# Altium schematic symbol library 野火_EBF6ULL B1 Pro 底板_原理图封装_AD格式.SCHLIB: 140 symbols (part 1 of 2)
Pins are listed as number, name and electrical type; pins without a type are passive.

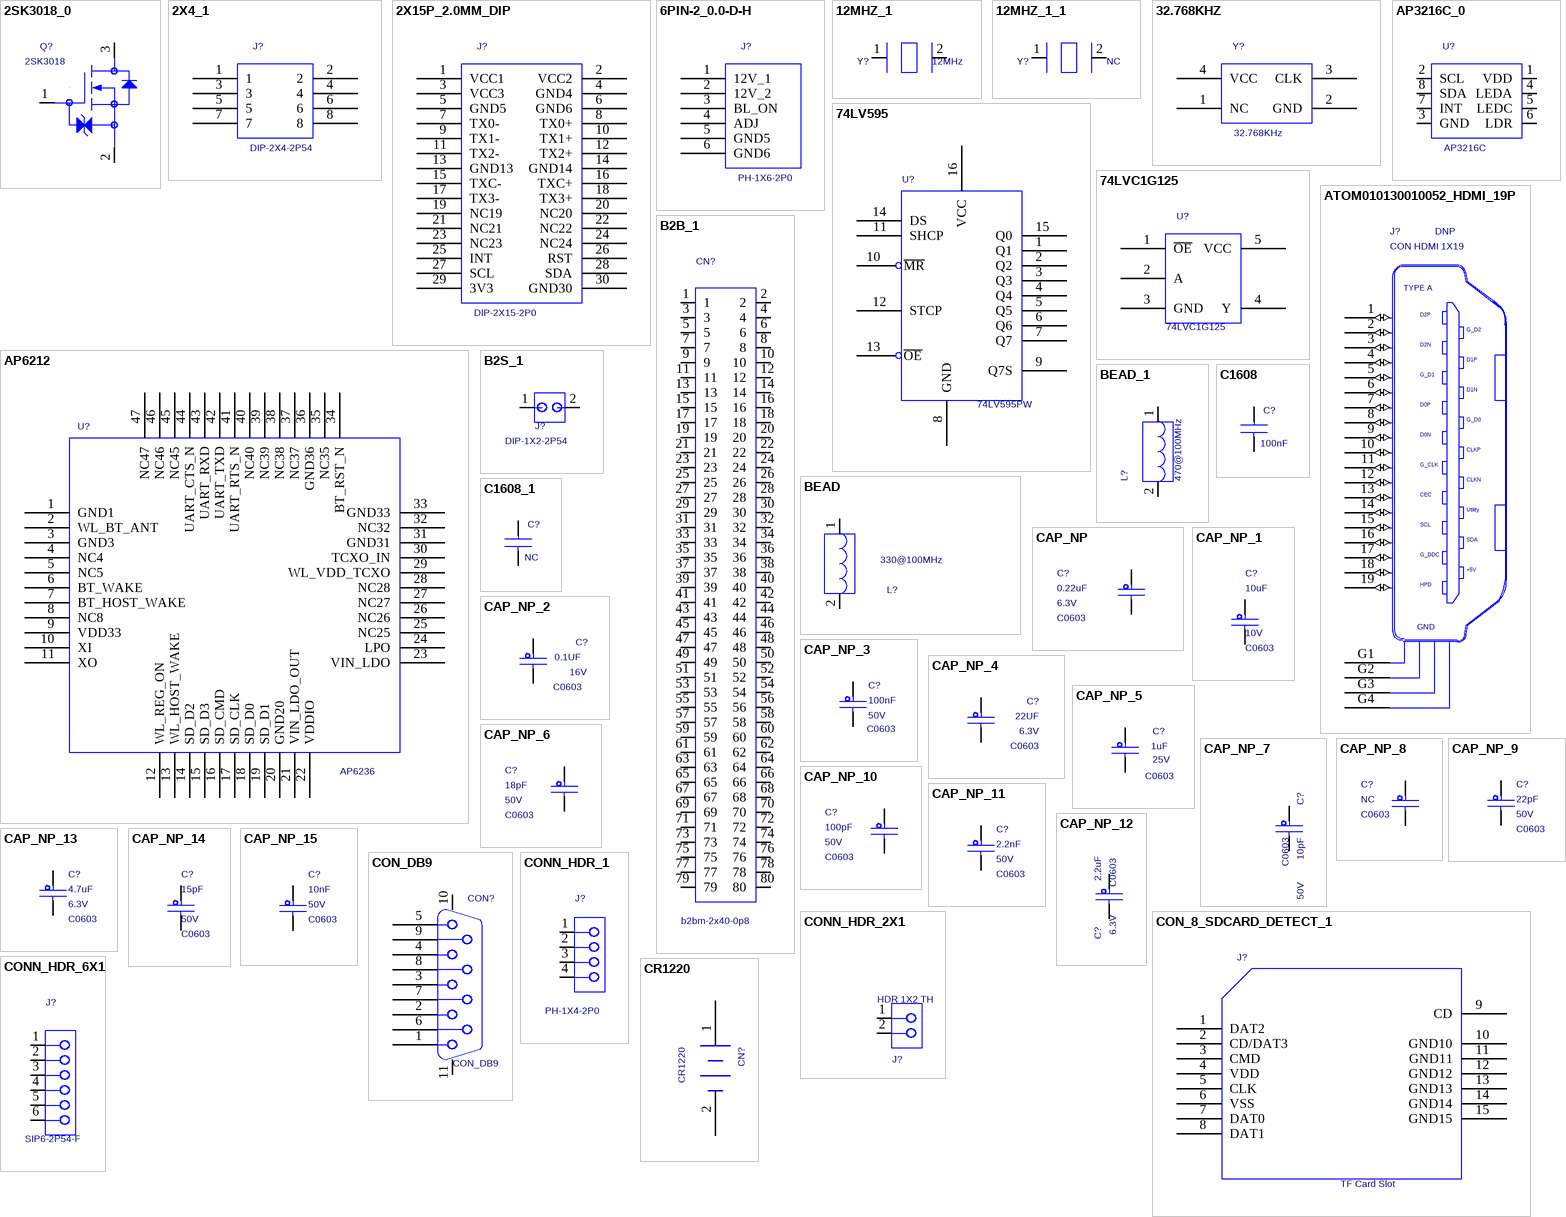
[diagram p0: symbols 2SK3018_0 to CR1220]

## 2SK3018_0
designator Q?  value 2SK3018  (hidden comment: 2SK3018_0)
TRANS MOSFET N-CH 30V .1A SOT-323; PCB DECAL: SOT23; AGILE_PN: 480-75317; MFG_NAME01: ROHM; MFG_PN01: 2SK3018T106; CAD_APPROVED: Yes; Source_Path: H:\NXP_RT1050\SCH\CORE_SCH\IMXRT1052_180113.DSN; CLASS: IC; ROHS: Yes; HEIGHT: 0.9MM
footprint SOT23
pins: 1 GATE, 2 SOURCE, 3 DRAIN

## 2X4_1
designator J?  value DIP-2X4-2P54  (hidden comment: 2X4_1)
Source_Path: D:\NXP_RT1050\RT1050_MB_PRO\SCH\IMXRT1052_MB_PRO_0321.DSN; PCB DECAL: DIP-2X4-2P54
footprint DIP-2X4-2P54
pins: 1, 2, 3, 4, 5, 6, 7, 8

## 2X15P_2.0MM_DIP
designator J?  value DIP-2X15-2P0  (hidden comment: 2X15P_2.0MM_DIP)
Source_Path: H:\NXP_RT1050\SCH\SCHLIB\YHSCHLIB.OLB; PCB DECAL: DIP-2X15-2P0
footprint DIP-2X15-2P0
pins: 1 VCC1, 2 VCC2, 3 VCC3, 4 GND4, 5 GND5, 6 GND6, 7 TX0-, 8 TX0+, 9 TX1-, 10 TX1+, 11 TX2-, 12 TX2+, 13 GND13, 14 GND14, 15 TXC-, 16 TXC+, 17 TX3-, 18 TX3+, 19 NC19, 20 NC20, 21 NC21, 22 NC22, 23 NC23, 24 NC24, 25 INT, 26 RST, 27 SCL, 28 SDA, 29 3V3, 30 GND30

## 6PIN-2_0.0-D-H
designator J?  value PH-1X6-2P0  (hidden comment: 6PIN-2_0.0-D-H)
Source_Path: H:\NXP_RT1050\SCH\IMXRT1052_MB.DSN; PCB DECAL: PH-1X6-2P0
footprint PH-1X6-2P0
pins: 1 12V_1, 2 12V_2, 3 BL_ON, 4 ADJ, 5 GND5, 6 GND6

## 12MHZ_1
designator Y?  value 12MHz  (hidden comment: 12MHZ_1)
PCB DECAL: XTAL_SMD; Source_Path: H:\NXP_RT1050\SCH\IMXRT1052_MB.DSN
footprint XTAL_SMD
pins: 1, 2

## 12MHZ_1_1
designator Y?, comment value NC  (hidden comment: 12MHZ_1)
PCB DECAL: XTAL-DIP; Source_Path: H:\NXP_RT1050\SCH\IMXRT1052_MB.DSN
footprint XTAL-DIP
pins: 1, 2

## 32.768KHZ
designator Y?
PCB DECAL: 3225; Source_Path: F:\NXP\I.MX6UL\SCH\IMX6UL.OLB; Value: 32.768KHz
footprint 3225
pins: 1 NC, 2 GND, 3 CLK, 4 VCC

## 74LV595
designator U?  value 74LV595PW  (hidden comment: 74LV595)
IC REG S 8BIT TS 1.0-3.6V TSSOP16; AGILE_PN: 312-79843; MFG_NAME01: PHILIPS SEMICONDUCTOR; CAD_APPROVED: Yes; Source_Path: Q:\ORCADCIS\SYMBOLS\FCL_IC5.OLB; PCB DECAL: TSSOP16; MFG_PN01: 74LV595PW; ROHS: Yes; HEIGHT: 1.1MM; CLASS: IC
footprint TSSOP16
pins: 1 Q1, 2 Q2, 3 Q3, 4 Q4, 5 Q5, 6 Q6, 7 Q7, 8 GND (power), 9 Q7S, 10 ~{MR}, 11 SHCP, 12 STCP, 13 ~{OE}, 14 DS, 15 Q0, 16 VCC (power)

## 74LVC1G125
designator U?
PCB DECAL: SOT-353; Source_Path: C:\MYPROGRAM\CADENCE\SPB_16.6\TOOLS\CAPTURE\LIBRARY\SCH.OLB; Value: 74LVC1G125
footprint SOT-353
pins: 1 ~{OE}, 2 A, 3 GND, 4 Y, 5 VCC

## AP3216C_0
designator U?  value AP3216C  (hidden comment: AP3216C_0)
Source_Path: D:\NXP_RT1050\RT1050_MB_PRO\SCH\IMXRT1052_MB_PRO_0414.DSN; PCB DECAL: AP3216C
footprint AP3216C
pins: 1 VDD, 2 SCL, 3 GND, 4 LEDA, 5 LEDC, 6 LDR, 7 INT, 8 SDA

## AP6212
designator U?  value AP6236  (hidden comment: AP6212)
Source_Path: F:\NXP\I.MX6UL\SCH\IMX6UL.OLB; PCB DECAL: AP6212
footprint AP6212
pins: 1 GND1, 2 WL_BT_ANT, 3 GND3, 4 NC4, 5 NC5, 6 BT_WAKE, 7 BT_HOST_WAKE, 8 NC8, 9 VDD33, 10 XI, 11 XO, 12 WL_REG_ON, 13 WL_HOST_WAKE, 14 SD_D2, 15 SD_D3, 16 SD_CMD, 17 SD_CLK, 18 SD_D0, 19 SD_D1, 20 GND20, 21 VIN_LDO_OUT, 22 VDDIO, 23 VIN_LDO, 24 LPO, 25 NC25, 26 NC26, 27 NC27, 28 NC28, 29 WL_VDD_TCXO, 30 TCXO_IN, 31 GND31, 32 NC32, 33 GND33, 34 BT_RST_N, 35 NC35, 36 GND36, 37 NC37, 38 NC38, 39 NC39, 40 NC40, 41 UART_RTS_N, 42 UART_TXD, 43 UART_RXD, 44 UART_CTS_N, 45 NC45, 46 NC46, 47 NC47

## ATOM010130010052_HDMI_19P
designator J?  value CON HDMI 1X19  ASSY_OPT: DNP  (hidden comment: ATOM010130010052_HDMI_19P)
CON 1X19 HDMI SMT 0.5MM 249H AU --; CAD_APPROVED: Yes; MFG_PN01: HD119F-3A04202; MFG_NAME01: SHENZHEN ATOM TECHNOLOGY CO.,LTD; AGILE_PN: 211-79674; PCB DECAL: CON_RA_HDMI_19P_0P5_SM; Source_Path: Q:\ORCADCIS\SYMBOLS\FCL_CONNECTOR.OLB; VPN: 1166-2C105-211; Vendor: Comtek; OriginalSymbolOrigin: (-200,650); CLASS: IO; HEIGHT: 6.33MM; ROHS: Yes
footprint CON_RA_HDMI_19P_0P5_SM
pins: 1 D2+ (io), 2 D2GND (io), 3 D2- (io), 4 D1+ (io), 5 D1GND (io), 6 D1- (io), 7 D0+ (io), 8 D0GND (io), 9 D0- (io), 10 CK+ (io), 11 CKGND (io), 12 CK- (io), 13 CEC (io), 14 UTILITY (io), 15 SCL (io), 16 SDA (io), 17 DDCGND (io), 18 +5V (io), 19 HPD (io), G1 GND1 (power), G2 GND2 (power), G3 GND3 (power), G4 GND4 (power)
text: TYPE A; D2P; G_D2; D2N; D1P; G_D1; D1N; D0P; G_D0; D0N; CLKP; G_CLK; CLKN; Utility; G_DDC; GND

## B2B_1
designator CN?  value b2bm-2x40-0p8  (hidden comment: B2B_1)
Source_Path: F:\SCH-PCB\EBF_L002\SCH\EBF_L002.DSN; PCB DECAL: B2BM-2X40-0P8
footprint B2BM-2X40-0P8
pins: 1, 2, 3, 4, 5, 6, 7, 8, 9, 10, 11, 12, 13, 14, 15, 16, 17, 18, 19, 20, 21, 22, 23, 24, 25, 26, 27, 28, 29, 30, 31, 32, 33, 34, 35, 36, 37, 38, 39, 40, 41, 42, 43, 44, 45, 46, 47, 48, 49, 50, 51, 52, 53, 54, 55, 56, 57, 58, 59, 60, 61, 62, 63, 64, 65, 66, 67, 68, 69, 70, 71, 72, 73, 74, 75, 76, 77, 78, 79, 80

## B2S_1
designator J?  value DIP-1X2-2P54  (hidden comment: B2S_1)
PCB DECAL: HDR102; Source_Path: F:\STM32\F429\SCH\V4\STM32F429_F767_H743_MB_1129.DSN
footprint HDR102
pins: 1, 2

## BEAD
designator L?  value 330@100MHz  (hidden comment: BEAD)
IND FER BEAD 330OHM@100MHZ 1.7A 0603; PART_TYPE: FERRITE\BEAD; AGILE_PN: 180-78156; Tolerance: 25%; MFG_NAME01: TDK; MFG_PN01: MPZ1608S331A; CAD_APPROVED: Yes; PCB DECAL: L0603; Source_Path: Q:\ORCADCIS\SYMBOLS\FCL_INDUCTOR.OLB; CLASS: DISCRETE; ROHS: Yes; HEIGHT: 0.95MM; TOL: 25%
footprint L0603
pins: 1, 2

## BEAD_1
designator L?, comment value 470@100MHz  (hidden comment: BEAD)
IND FER BEAD 330OHM@100MHZ 1.7A 0603; PART_TYPE: FERRITE\BEAD; PCB DECAL: L0603; AGILE_PN: 180-78156; Tolerance: 25%; MFG_NAME01: TDK; MFG_PN01: MPZ1608S331A; CAD_APPROVED: Yes; Source_Path: Q:\ORCADCIS\SYMBOLS\FCL_INDUCTOR.OLB; CLASS: DISCRETE; ROHS: Yes; HEIGHT: 0.95MM; TOL: 25%
footprint L0603
pins: 1, 2

## C1608
designator C?  value 100nF  (hidden comment: C1608)
PCB DECAL: C0603; Source_Path: D:\SOPGODS_VIEW_AP\MOBILE_AP_APPLICATION\LIBRARY\ORCAD\DEVICE.OLB
footprint C0603
pins: 1, 2

## C1608_1
designator C?, comment value NC  (hidden comment: C1608)
PCB DECAL: C0603; Source_Path: D:\SOPGODS_VIEW_AP\MOBILE_AP_APPLICATION\LIBRARY\ORCAD\DEVICE.OLB
footprint C0603
pins: 1, 2

## CAP_NP
designator C?  value 0.22uF  PCB DECAL: C0603  VOLTAGE: 6.3V  (hidden comment: CAP_NP)
CAP CER 0.22UF 6.3V 20% X5R 0402; FPLIST: CC0402_25,CC0402_HD,0402_CC; CAD_APPROVED: Yes; MFG_PN01: C0402C224M9PAC; MFG_NAME01: KEMET; AGILE_PN: 150-76271; Source_Path: Q:\ORCADCIS\SYMBOLS\FCL_CAPACITOR.OLB; CLASS: DISCRETE; HEIGHT: 0.55MM; ROHS: Yes; Tolerance: 20%
footprint C0603
pins: 1, 2

## CAP_NP_1
designator C?, comment value 10uF  PCB DECAL: C0603  voltage_rating: 10V  (hidden comment: CAP_NP)
CAP CER 22UF 6.3V 20% X5R 0603; AGILE_PN: 150-78467; MFG_NAME01: Samsung; MFG_PN01: CL10A226MQ8NRNE; CAD_APPROVED: Yes; FPLIST: CC0603_OV,CC0603,0603_CC; Source_Path: Q:\ORCADCIS\SYMBOLS\FCL_CAPACITOR.OLB; CLASS: DISCRETE; Tolerance: 20%; ROHS: Yes; HEIGHT: 1MM; VOLTAGE: 6.3V
footprint C0603
pins: 1, 2

## CAP_NP_2
designator C?, comment value 0.1UF  PCB DECAL: C0603  voltage_rating: 16V  (hidden comment: CAP_NP)
CAP CER 22UF 6.3V 20% X5R 0603; FPLIST: CC0603_OV,CC0603,0603_CC; CAD_APPROVED: Yes; MFG_PN01: CL10A226MQ8NRNE; MFG_NAME01: Samsung; AGILE_PN: 150-78467; Source_Path: Q:\ORCADCIS\SYMBOLS\FCL_CAPACITOR.OLB; CLASS: DISCRETE; VOLTAGE: 6.3V; HEIGHT: 1MM; ROHS: Yes; Tolerance: 20%
footprint C0603
pins: 1, 2

## CAP_NP_3
designator C?, comment value 100nF  PCB DECAL: C0603  voltage_rating: 50V  (hidden comment: CAP_NP)
CAP CER 22UF 6.3V 20% X5R 0603; FPLIST: CC0603_OV,CC0603,0603_CC; CAD_APPROVED: Yes; MFG_PN01: CL10A226MQ8NRNE; MFG_NAME01: Samsung; AGILE_PN: 150-78467; Source_Path: Q:\ORCADCIS\SYMBOLS\FCL_CAPACITOR.OLB; CLASS: DISCRETE; VOLTAGE: 6.3V; HEIGHT: 1MM; ROHS: Yes; Tolerance: 20%
footprint C0603
pins: 1, 2

## CAP_NP_4
designator C?, comment value 22UF  voltage_rating: 6.3V  PCB DECAL: C0603  (hidden comment: CAP_NP)
CAP CER 22UF 6.3V 20% X5R 0603; FPLIST: CC0603_OV,CC0603,0603_CC; CAD_APPROVED: Yes; MFG_PN01: CL10A226MQ8NRNE; MFG_NAME01: Samsung; AGILE_PN: 150-78467; Source_Path: Q:\ORCADCIS\SYMBOLS\FCL_CAPACITOR.OLB; CLASS: DISCRETE; VOLTAGE: 6.3V; HEIGHT: 1MM; ROHS: Yes; Tolerance: 20%
footprint C0603
pins: 1, 2

## CAP_NP_5
designator C?, comment value 1uF  PCB DECAL: C0603  voltage_rating: 25V  (hidden comment: CAP_NP)
CAP CER 22UF 6.3V 20% X5R 0603; FPLIST: CC0603_OV,CC0603,0603_CC; CAD_APPROVED: Yes; MFG_PN01: CL10A226MQ8NRNE; MFG_NAME01: Samsung; AGILE_PN: 150-78467; Source_Path: Q:\ORCADCIS\SYMBOLS\FCL_CAPACITOR.OLB; CLASS: DISCRETE; VOLTAGE: 6.3V; HEIGHT: 1MM; ROHS: Yes; Tolerance: 20%
footprint C0603
pins: 1, 2

## CAP_NP_6
designator C?, comment value 18pF  voltage_rating: 50V  PCB DECAL: C0603  (hidden comment: CAP_NP)
CAP CER 22UF 6.3V 20% X5R 0603; FPLIST: CC0603_OV,CC0603,0603_CC; CAD_APPROVED: Yes; MFG_PN01: CL10A226MQ8NRNE; MFG_NAME01: Samsung; AGILE_PN: 150-78467; Source_Path: Q:\ORCADCIS\SYMBOLS\FCL_CAPACITOR.OLB; CLASS: DISCRETE; VOLTAGE: 6.3V; HEIGHT: 1MM; ROHS: Yes; Tolerance: 20%
footprint C0603
pins: 1, 2

## CAP_NP_7
designator C?, comment value 10pF  voltage_rating: 50V  PCB DECAL: C0603  (hidden comment: CAP_NP)
CAP CER 22UF 6.3V 20% X5R 0603; FPLIST: CC0603_OV,CC0603,0603_CC; CAD_APPROVED: Yes; MFG_PN01: CL10A226MQ8NRNE; MFG_NAME01: Samsung; AGILE_PN: 150-78467; Source_Path: Q:\ORCADCIS\SYMBOLS\FCL_CAPACITOR.OLB; CLASS: DISCRETE; VOLTAGE: 6.3V; HEIGHT: 1MM; ROHS: Yes; Tolerance: 20%
footprint C0603
pins: 1, 2

## CAP_NP_8
designator C?, comment value NC  PCB DECAL: C0603  (hidden comment: CAP_NP)
CAP CER 22UF 6.3V 20% X5R 0603; voltage_rating: 50V; AGILE_PN: 150-78467; MFG_NAME01: Samsung; MFG_PN01: CL10A226MQ8NRNE; CAD_APPROVED: Yes; FPLIST: CC0603_OV,CC0603,0603_CC; Source_Path: Q:\ORCADCIS\SYMBOLS\FCL_CAPACITOR.OLB; CLASS: DISCRETE; Tolerance: 20%; ROHS: Yes; HEIGHT: 1MM; VOLTAGE: 6.3V
footprint C0603
pins: 1, 2

## CAP_NP_9
designator C?, comment value 22pF  voltage_rating: 50V  PCB DECAL: C0603  (hidden comment: CAP_NP)
CAP CER 22UF 6.3V 20% X5R 0603; FPLIST: CC0603_OV,CC0603,0603_CC; CAD_APPROVED: Yes; MFG_PN01: CL10A226MQ8NRNE; MFG_NAME01: Samsung; AGILE_PN: 150-78467; Source_Path: Q:\ORCADCIS\SYMBOLS\FCL_CAPACITOR.OLB; CLASS: DISCRETE; VOLTAGE: 6.3V; HEIGHT: 1MM; ROHS: Yes; Tolerance: 20%
footprint C0603
pins: 1, 2

## CAP_NP_10
designator C?, comment value 100pF  PCB DECAL: C0603  voltage_rating: 50V  (hidden comment: CAP_NP)
CAP CER 22UF 6.3V 20% X5R 0603; FPLIST: CC0603_OV,CC0603,0603_CC; CAD_APPROVED: Yes; MFG_PN01: CL10A226MQ8NRNE; MFG_NAME01: Samsung; AGILE_PN: 150-78467; Source_Path: Q:\ORCADCIS\SYMBOLS\FCL_CAPACITOR.OLB; CLASS: DISCRETE; VOLTAGE: 6.3V; HEIGHT: 1MM; ROHS: Yes; Tolerance: 20%
footprint C0603
pins: 1, 2

## CAP_NP_11
designator C?, comment value 2.2nF  PCB DECAL: C0603  voltage_rating: 50V  (hidden comment: CAP_NP)
CAP CER 22UF 6.3V 20% X5R 0603; AGILE_PN: 150-78467; MFG_NAME01: Samsung; MFG_PN01: CL10A226MQ8NRNE; CAD_APPROVED: Yes; FPLIST: CC0603_OV,CC0603,0603_CC; Source_Path: Q:\ORCADCIS\SYMBOLS\FCL_CAPACITOR.OLB; CLASS: DISCRETE; Tolerance: 20%; ROHS: Yes; HEIGHT: 1MM; VOLTAGE: 6.3V
footprint C0603
pins: 1, 2

## CAP_NP_12
designator C?, comment value 2.2uF  PCB DECAL: C0603  voltage_rating: 6.3V  (hidden comment: CAP_NP)
CAP CER 22UF 6.3V 20% X5R 0603; FPLIST: CC0603_OV,CC0603,0603_CC; CAD_APPROVED: Yes; MFG_PN01: CL10A226MQ8NRNE; MFG_NAME01: Samsung; AGILE_PN: 150-78467; Source_Path: Q:\ORCADCIS\SYMBOLS\FCL_CAPACITOR.OLB; CLASS: DISCRETE; VOLTAGE: 6.3V; HEIGHT: 1MM; ROHS: Yes; Tolerance: 20%
footprint C0603
pins: 1, 2

## CAP_NP_13
designator C?, comment value 4.7uF  voltage_rating: 6.3V  PCB DECAL: C0603  (hidden comment: CAP_NP)
CAP CER 22UF 6.3V 20% X5R 0603; FPLIST: CC0603_OV,CC0603,0603_CC; CAD_APPROVED: Yes; MFG_PN01: CL10A226MQ8NRNE; MFG_NAME01: Samsung; AGILE_PN: 150-78467; Source_Path: Q:\ORCADCIS\SYMBOLS\FCL_CAPACITOR.OLB; CLASS: DISCRETE; VOLTAGE: 6.3V; HEIGHT: 1MM; ROHS: Yes; Tolerance: 20%
footprint C0603
pins: 1, 2

## CAP_NP_14
designator C?, comment value 15pF  voltage_rating: 50V  PCB DECAL: C0603  (hidden comment: CAP_NP)
CAP CER 22UF 6.3V 20% X5R 0603; FPLIST: CC0603_OV,CC0603,0603_CC; CAD_APPROVED: Yes; MFG_PN01: CL10A226MQ8NRNE; MFG_NAME01: Samsung; AGILE_PN: 150-78467; Source_Path: Q:\ORCADCIS\SYMBOLS\FCL_CAPACITOR.OLB; CLASS: DISCRETE; VOLTAGE: 6.3V; HEIGHT: 1MM; ROHS: Yes; Tolerance: 20%
footprint C0603
pins: 1, 2

## CAP_NP_15
designator C?, comment value 10nF  voltage_rating: 50V  PCB DECAL: C0603  (hidden comment: CAP_NP)
CAP CER 22UF 6.3V 20% X5R 0603; AGILE_PN: 150-78467; MFG_NAME01: Samsung; MFG_PN01: CL10A226MQ8NRNE; CAD_APPROVED: Yes; FPLIST: CC0603_OV,CC0603,0603_CC; Source_Path: Q:\ORCADCIS\SYMBOLS\FCL_CAPACITOR.OLB; CLASS: DISCRETE; Tolerance: 20%; ROHS: Yes; HEIGHT: 1MM; VOLTAGE: 6.3V
footprint C0603
pins: 1, 2

## CON_8_SDCARD_DETECT_1
designator J?  value TF Card Slot  (hidden comment: CON_8_SDCARD_DETECT_1)
CON 8 SKT SD/MMC PUSH-PUSH RA SMT 1.1MM SP 83H AU; PCB DECAL: TFCARD; AGILE_PN: 211-80105; MFG_NAME01: ANYTRONIC CORPORATION LIMITED; MFG_PN01: 95060030-14RRF; CAD_APPROVED: Yes; Source_Path: H:\NXP_RT1050\SCH\IMXRT1052_MB.DSN; CLASS: IO; ROHS: Yes; HEIGHT: 2.1 MM
footprint TFCARD
pins: 1 DAT2, 2 CD/DAT3, 3 CMD, 4 VDD (power), 5 CLK, 6 VSS (power), 7 DAT0, 8 DAT1, 9 CD, 10 GND10, 11 GND11, 12 GND12, 13 GND13, 14 GND14, 15 GND15

## CON_DB9
designator CON?
PCB DECAL: DB9-F; Source_Path: E:\WORK\LIB\ORCAD_SCH\MYLIB_10120926.OLB; Value: CON_DB9
footprint DB9-F
pins: 1, 2, 3, 4, 5, 6, 7, 8, 9, 10, 11

## CONN_HDR_1
designator J?  value PH-1X4-2P0  (hidden comment: CONN_HDR_1)
HDR 1X2 TH 100MIL SP 339H AU 98L; CAD_APPROVED: YES; ASSY_OPT: DNP; MFG_PN01: TSW-102-07-G-S; MFG_NAME01: SAMTEC; AGILE_PN: 210-75439; Source_Path: D:\NXP_RT1050\RT1050_MB_PRO\SCH\IMXRT1052_MB_PRO_0417_3.DSN; CLASS: IO; HEIGHT: 8.71 MM; ROHS: Yes; PCB DECAL: PH-1X4-2P0
footprint PH-1X4-2P0
pins: 1, 2, 3, 4

## CONN_HDR_2X1
designator J?  value HDR 1X2 TH  (hidden comment: CONN_HDR_2X1)
HDR 1X2 TH 100MIL SP 339H AU 98L; PCB DECAL: CON_2PIN; AGILE_PN: 210-75439; MFG_NAME01: SAMTEC; MFG_PN01: TSW-102-07-G-S; CAD_APPROVED: YES; Source_Path: Q:\ORCADCIS\SYMBOLS\FCL_CONNECTOR.OLB; CLASS: IO; ROHS: Yes; HEIGHT: 8.71 MM
footprint CON_2PIN
pins: 1, 2

## CONN_HDR_6X1
designator J?  value SIP6-2P54-F  (hidden comment: CONN_HDR_6X1)
CON 1X6 SKT TH 100MIL SP 344H AU 118L; CAD_APPROVED: Yes; ASSY_OPT: DNP; Temp_Range: -40°C to +105°C; MFG_PN01: 08001S3 0611-29RF; MFG_NAME01: ANYTRONIC CORPORATION LIMITED; AGILE_PN: 210-81616; PCB DECAL: SIP6-2P54; Source_Path: Q:\ORCADCIS\SYMBOLS\FCL_CONNECTOR.OLB; CLASS: IO; HEIGHT: 8.75MM; ROHS: Yes
footprint SIP6-2P54
pins: 1, 2, 3, 4, 5, 6

## CR1220
designator CN?
Source_Path: H:\NXP_RT1050\SCH\SCHLIB\YHSCHLIB.OLB; PCB DECAL: CR1220; Value: CR1220
footprint CR1220
pins: 1 BAT, 2 GND

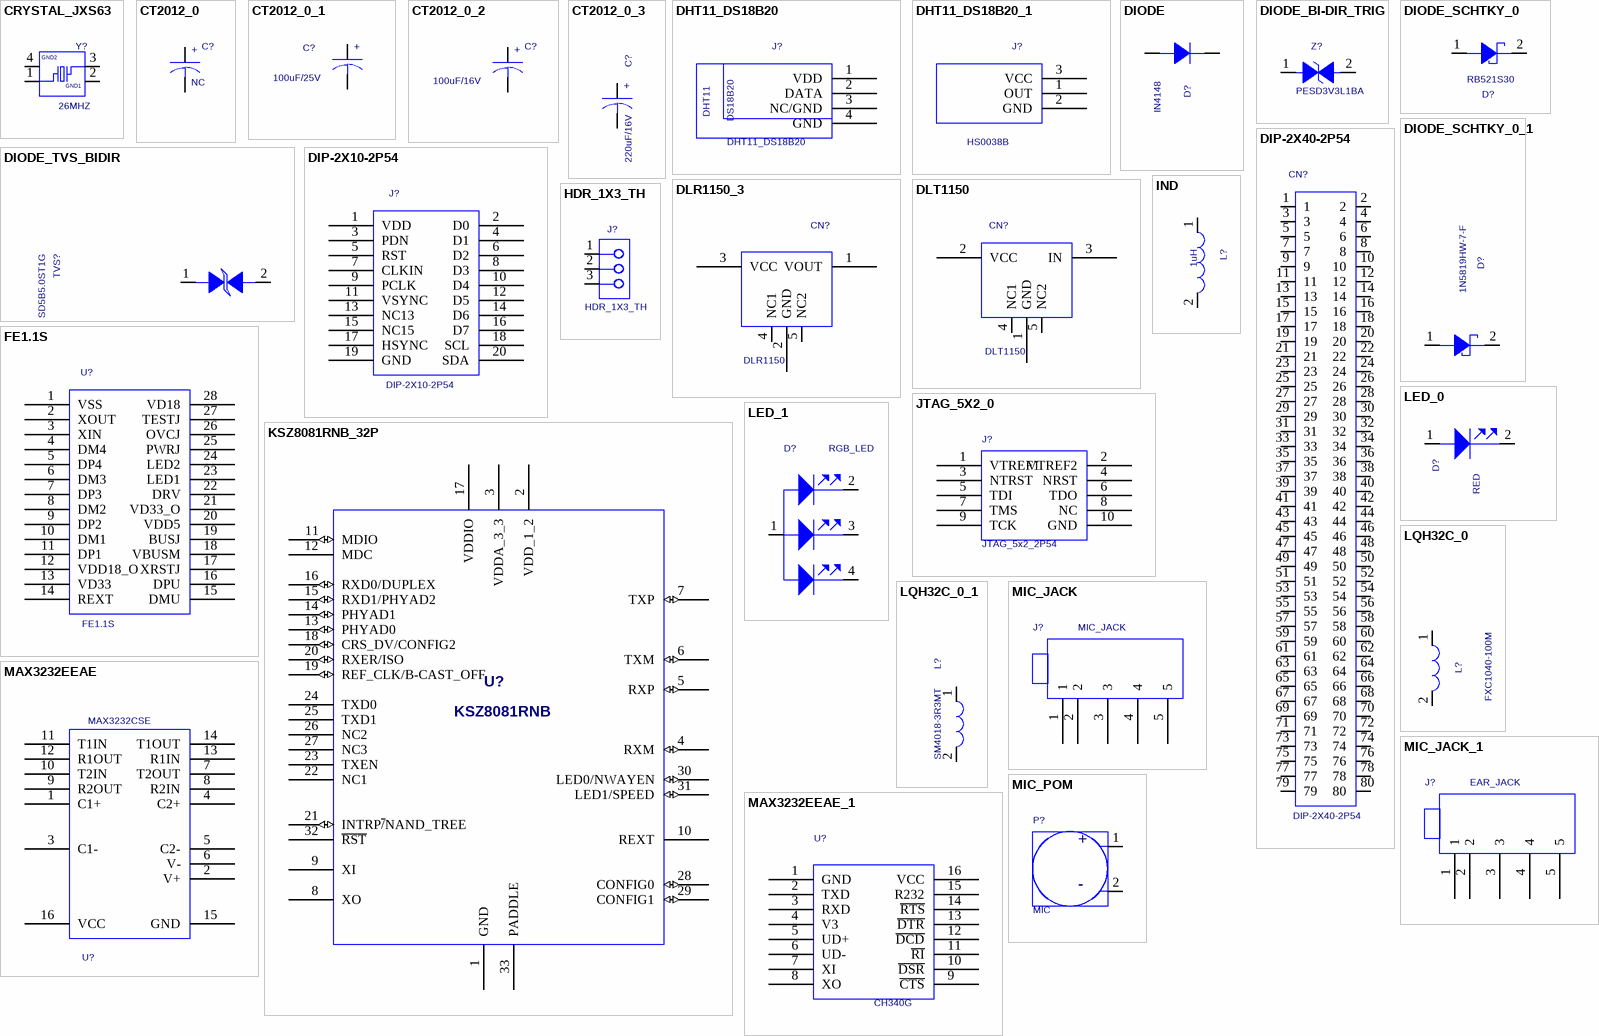
[diagram p1: symbols CRYSTAL_JXS63 to MIC_POM]

## CRYSTAL_JXS63
designator Y?  value 26MHZ  (hidden comment: CRYSTAL_JXS63)
XTAL 24MHZ -- 30PPM 3.2X2.5MM SMD; AGILE_PN: 230-77452; MFG_NAME01: TXC CORP; MFG_PN01: 7V24000002; CAD_APPROVED: Yes; PCB DECAL: 3225; Source_Path: Q:\ORCADCIS\SYMBOLS\FCL_XTAL_OSC.OLB; CLASS: IC; ROHS: Yes; HEIGHT: 0.9MM
footprint 3225
pins: 1, 2 GND1 (power), 3, 4 GND2 (power)

## CT2012_0
designator C?  value NC  (hidden comment: CT2012_0)
PCB DECAL: CAP100; Source_Path: D:\01_LSI_PROJECT\C100\00.SMDK俺惯\SCHEMATICS\C100\C100_CPU.OLB
footprint CAP100
pins: 1, 2
text: +

## CT2012_0_1
designator C?, comment value 100uF/25V  (hidden comment: CT2012_0)
PCB DECAL: EC6P3; Source_Path: D:\01_LSI_PROJECT\C100\00.SMDK俺惯\SCHEMATICS\C100\C100_CPU.OLB
footprint EC6P3
pins: 1, 2
text: +

## CT2012_0_2
designator C?, comment value 100uF/16V  (hidden comment: CT2012_0)
PCB DECAL: EC6P3; Source_Path: D:\01_LSI_PROJECT\C100\00.SMDK俺惯\SCHEMATICS\C100\C100_CPU.OLB
footprint EC6P3
pins: 1, 2
text: +

## CT2012_0_3
designator C?, comment value 220uF/16V  (hidden comment: CT2012_0)
PCB DECAL: EC6P3; Source_Path: D:\01_LSI_PROJECT\C100\00.SMDK俺惯\SCHEMATICS\C100\C100_CPU.OLB
footprint EC6P3
pins: 1, 2
text: +

## DHT11_DS18B20
designator J?
PCB DECAL: SIP4-2P54; Source_Path: H:\NXP_RT1050\SCH\SCHLIB\YHSCHLIB.OLB; Value: DHT11_DS18B20
footprint SIP4-2P54
pins: 1 VDD, 2 DATA, 3 NC/GND, 4 GND
text: DHT11; DS18B20

## DHT11_DS18B20_1
designator J?  value HS0038B  (hidden comment: DHT11_DS18B20_1)
PCB DECAL: SIP3-2P54; Source_Path: D:\NXP_RT1050\RT1050_MB_PRO\SCH\IMXRT1052_MB_PRO_0413.DSN
footprint SIP3-2P54
pins: 1 OUT, 2 GND, 3 VCC

## DIODE
designator D?  value IN4148  (hidden comment: DIODE)
PCB DECAL: D1206; Source_Path: C:\CADENCE\SPB_16.2\TOOLS\CAPTURE\LIBRARY\DISCRETE.OLB
footprint D1206
pins: 1 A, 2 K

## DIODE_BI-DIR_TRIG
designator Z?  value PESD3V3L1BA  (hidden comment: DIODE_BI-DIR_TRIG)
ROOM: B-VGA_IN; Assembly: NC; PCB DECAL: SOD323; Source_Path: D:\PCB_DATA\ORCAD_LIB\LRY2.OLB; Package: D0603
footprint SOD323
pins: 1, 2

## DIODE_SCHTKY_0
designator D?  value RB521S30  (hidden comment: DIODE_SCHTKY_0)
DIODE SCH RECT 200MA 30V AEC-Q101 SOD-523; CAD_APPROVED: Yes; MFG_PN01: RB521S30,115; MFG_NAME01: NEXPERIA; AGILE_PN: 480-79672; PCB DECAL: SOD523; Source_Path: H:\NXP_RT1050\SCH\IMXRT1052_CORE\CORE\IMXRT1052_1207.DSN; CLASS: IC; HEIGHT: 0.65MM; ROHS: Yes
footprint SOD523
pins: 1, 2

## DIODE_SCHTKY_0_1
designator D?, comment value 1N5819HW-7-F  (hidden comment: DIODE_SCHTKY_0)
DIODE SCH RECT 200MA 30V AEC-Q101 SOD-523; CAD_APPROVED: Yes; MFG_PN01: RB521S30,115; MFG_NAME01: NEXPERIA; AGILE_PN: 480-79672; PCB DECAL: SOD123; Source_Path: H:\NXP_RT1050\SCH\IMXRT1052_CORE\CORE\IMXRT1052_1207.DSN; CLASS: IC; HEIGHT: 0.65MM; ROHS: Yes
footprint SOD123
pins: 1, 2

## DIODE_TVS_BIDIR
designator TVS?  value ESD5B5.0ST1G  (hidden comment: DIODE_TVS_BIDIR)
DIODE SUPPRESSOR 16A@30NS 5V@1UA SOD-523; PCB DECAL: SOD523; CAD_APPROVED: Yes; ASSY_OPT: DNP; MFG_NAME01: on semiconductor; AGILE_PN: 480-76937; Source_Path: Q:\ORCADCIS\SYMBOLS\FCL_SEMICONDUCTOR.OLB; CLASS: IC; HEIGHT: 0.7MM; ROHS: Yes; MFG_PN01: ESD5B5.0ST1G
footprint SOD523
pins: 1 A1, 2 A2

## DIP-2X10-2P54
designator J?
Source_Path: H:\NXP_RT1050\SCH\SCHLIB\YHSCHLIB.OLB; PCB DECAL: DIP-2X10-2P54; Value: DIP-2X10-2P54
footprint DIP-2X10-2P54
pins: 1 VDD, 2 D0, 3 PDN, 4 D1, 5 RST, 6 D2, 7 CLKIN, 8 D3, 9 PCLK, 10 D4, 11 VSYNC, 12 D5, 13 NC13, 14 D6, 15 NC15, 16 D7, 17 HSYNC, 18 SCL, 19 GND, 20 SDA

## DIP-2X40-2P54
designator CN?
Source_Path: F:\NXP\I.MX6UL\SCH\IMX6UL.OLB; PCB DECAL: DIP-2X40-2P54; Value: DIP-2X40-2P54
footprint DIP-2X40-2P54
pins: 1, 2, 3, 4, 5, 6, 7, 8, 9, 10, 11, 12, 13, 14, 15, 16, 17, 18, 19, 20, 21, 22, 23, 24, 25, 26, 27, 28, 29, 30, 31, 32, 33, 34, 35, 36, 37, 38, 39, 40, 41, 42, 43, 44, 45, 46, 47, 48, 49, 50, 51, 52, 53, 54, 55, 56, 57, 58, 59, 60, 61, 62, 63, 64, 65, 66, 67, 68, 69, 70, 71, 72, 73, 74, 75, 76, 77, 78, 79, 80

## DLR1150_3
designator CN?  value DLR1150  (hidden comment: DLR1150_3)
Source_Path: F:\STM32\H750\SCH\野火_H750 PRO底板_原理图_V1_0.DSN; PCB DECAL: DLR1150
footprint DLR1150
pins: 1 VOUT, 2 GND, 3 VCC, 4 NC1, 5 NC2

## DLT1150
designator CN?
Source_Path: F:\NXP\I.MX6UL\SCH\IMX6UL.OLB; PCB DECAL: DLT1150; Value: DLT1150
footprint DLT1150
pins: 1 GND, 2 VCC, 3 IN, 4 NC1, 5 NC2

## FE1.1S
designator U?
PCB DECAL: SSOP-28; Source_Path: G:\开发板代码\郭老师资料\IMX6资料\原理图\SABRESDB_DESIGNFILES\DEVELOP\LIBRARY1.OLB; Value: FE1.1S
footprint SSOP-28
pins: 1 VSS, 2 XOUT, 3 XIN, 4 DM4, 5 DP4, 6 DM3, 7 DP3, 8 DM2, 9 DP2, 10 DM1, 11 DP1, 12 VDD18_O, 13 VD33, 14 REXT, 15 DMU, 16 DPU, 17 XRSTJ, 18 VBUSM, 19 BUSJ, 20 VDD5, 21 VD33_O, 22 DRV, 23 LED1, 24 LED2, 25 PWRJ, 26 OVCJ, 27 TESTJ, 28 VD18

## HDR_1X3_TH
designator J?
Source_Path: D:\NXP_RT1050\RT1050_MB_PRO\SCH\LIBRARY1.OLB; CLASS: IO; PCB DECAL: HDR_1X3_TH; Value: HDR_1X3_TH
footprint HDR_1X3_TH
pins: 1, 2, 3

## IND
designator L?  value 1uH  (hidden comment: IND)
IND PWR 1UH@100KHZ 2.6A 30% SMT; PART_TYPE: INDUCTOR\POWER; CAD_APPROVED: Yes; MFG_PN01: SWPA4020S1R0NT; MFG_NAME01: Shenzhen Sunlord Electronics Co., Ltd; AGILE_PN: 180-77797; PCB DECAL: L4018; Source_Path: Q:\ORCADCIS\SYMBOLS\FCL_INDUCTOR.OLB; CLASS: DISCRETE; HEIGHT: 2.2MM; ROHS: Yes; TOL: 30%; Tolerance: 30%
footprint L4018
pins: 1, 2

## JTAG_5X2_0
designator J?  value JTAG_5x2_2P54  (hidden comment: JTAG_5X2_0)
Source_Path: F:\SCH-PCB\EBF_L002\SCH\EBF_L002.DSN; PCB DECAL: JTAG_5X2_2P54
footprint JTAG_5X2_2P54
pins: 1 VTREF1, 2 VTREF2, 3 NTRST, 4 NRST, 5 TDI, 6 TDO, 7 TMS, 8 NC, 9 TCK, 10 GND

## KSZ8081RNB_32P
designator U?  value KSZ8081RNB  (hidden comment: KSZ8081RNB_32P)
IC XCVR 10/100M EPHY 3.3V QFN32; CAD_APPROVED: Yes; MFG_PN01: KSZ8081RNBIA; MFG_NAME01: Micrel; AGILE_PN: 312-81089; PCB DECAL: QFN32_0P5_EP3P3; Source_Path: Q:\ORCADCIS\SYMBOLS\FCL_IC5.OLB; HEIGHT: 0.9MM; ROHS: Yes; CLASS: IC
footprint QFN32_0P5_EP3P3
pins: 1 GND (power), 2 VDD_1_2 (power), 3 VDDA_3_3 (power), 4 RXM (io), 5 RXP (io), 6 TXM (io), 7 TXP (io), 8 XO, 9 XI, 10 REXT, 11 MDIO (io), 12 MDC, 13 PHYAD0 (io), 14 PHYAD1 (io), 15 RXD1/PHYAD2 (io), 16 RXD0/DUPLEX (io), 17 VDDIO (power), 18 CRS_DV/CONFIG2 (io), 19 REF_CLK/B-CAST_OFF (io), 20 RXER/ISO (io), 21 INTRP~{/}NAND_TREE (io), 22 NC1, 23 TXEN, 24 TXD0, 25 TXD1, 26 NC2, 27 NC3, 28 CONFIG0 (io), 29 CONFIG1 (io), 30 LED0/NWAYEN (io), 31 LED1/SPEED (io), 32 ~{RST}, 33 PADDLE (power)

## LED_0
designator D?  value RED  (hidden comment: LED_0)
LED GRN SGL 25MA 0603; PCB DECAL: LED0603; CAD_APPROVED: Yes; MFG_PN01: KPT-1608SGC; MFG_NAME01: KINGBRIGHT; AGILE_PN: 370-76549; Source_Path: H:\NXP_RT1050\SCH\IMXRT1052_CORE\CORE\IMXRT1052_1207.DSN; CLASS: IC; HEIGHT: 0.85MM; ROHS: Yes
footprint LED0603
pins: 1 ANODE, 2 CATHODE

## LED_1
designator D?  value RGB_LED  (hidden comment: LED_1)
LED GRN SGL 25MA 0603; AGILE_PN: 370-76549; MFG_NAME01: KINGBRIGHT; MFG_PN01: KPT-1608SGC; CAD_APPROVED: Yes; PCB DECAL: LED_RGB_5MM; Source_Path: F:\STM32\H750\SCH\野火_H750 PRO底板_原理图_V1_0.DSN; CLASS: IC; ROHS: Yes; HEIGHT: 0.85MM
footprint LED_RGB_5MM
pins: 1 ANODE, 2 R, 3 G, 4 B

## LQH32C_0
designator L?  value FXC1040-100M  (hidden comment: LQH32C_0)
PCB DECAL: L1040; Source_Path: D:\USER\ALLEGRO\2009\APR\SMDK_S5PC110_BASE\CAPTURE\S5PC110_SMDK_BASE_BD_SCHEMATIC_REV0.0.DSN
footprint L1040
pins: 1, 2

## LQH32C_0_1
designator L?, comment value SM4018-3R3MT  (hidden comment: LQH32C_0)
PCB DECAL: L4018; Source_Path: D:\USER\ALLEGRO\2009\APR\SMDK_S5PC110_BASE\CAPTURE\S5PC110_SMDK_BASE_BD_SCHEMATIC_REV0.0.DSN
footprint L4018
pins: 1, 2

## MAX3232EEAE
designator U?  value MAX3232CSE  (hidden comment: MAX3232EEAE)
PCB DECAL: SOIC16; Source_Path: E:\WORKS\PCB_DESIGN\CADENCE\LIB\PACKAGE_LIB\PACKAGE.OLB
footprint SOIC16
pins: 1 C1+, 2 V+, 3 C1-, 4 C2+, 5 C2-, 6 V-, 7 T2OUT, 8 R2IN, 9 R2OUT, 10 T2IN, 11 T1IN, 12 R1OUT, 13 R1IN, 14 T1OUT, 15 GND (power), 16 VCC (power)

## MAX3232EEAE_1
designator U?  value CH340G  (hidden comment: MAX3232EEAE_1)
PCB DECAL: SOIC16; Source_Path: H:\NXP_RT1050\SCH\IMXRT1052_MB.DSN
footprint SOIC16
pins: 1 GND, 2 TXD, 3 RXD, 4 V3, 5 UD+, 6 UD-, 7 XI, 8 XO, 9 ~{CTS}, 10 ~{DSR}, 11 ~{RI}, 12 ~{DCD}, 13 ~{DTR}, 14 ~{RTS}, 15 R232, 16 VCC (power)

## MIC_JACK
designator J?
PCB DECAL: EAR_JACK; Source_Path: H:\NXP_RT1050\SCH\SCHLIB\YHSCHLIB.OLB; Value: MIC_JACK
footprint EAR_JACK
pins: 1, 2, 3, 4, 5

## MIC_JACK_1
designator J?, comment value EAR_JACK  (hidden comment: MIC_JACK)
Source_Path: H:\NXP_RT1050\SCH\SCHLIB\YHSCHLIB.OLB; PCB DECAL: EAR_JACK
footprint EAR_JACK
pins: 1, 2, 3, 4, 5

## MIC_POM
designator P?  value MIC  (hidden comment: MIC_POM)
AUDIO DEVICE MIC 0.5MA 2V 38-48+/-3dB 2.2KOHM 6MM TH; PCB DECAL: MIC_6X2_2; CAD_APPROVED: Yes; MFG_PN01: EM6022P; MFG_NAME01: Soberton Inc; AGILE_PN: 510-77987; Source_Path: Q:\ORCADCIS\SYMBOLS\FCL_MISC.OLB; CLASS: IC; HEIGHT: 2.4MM; ROHS: Yes
footprint MIC_6X2_2
pins: 1 OUT, 2 GND
text: +; -

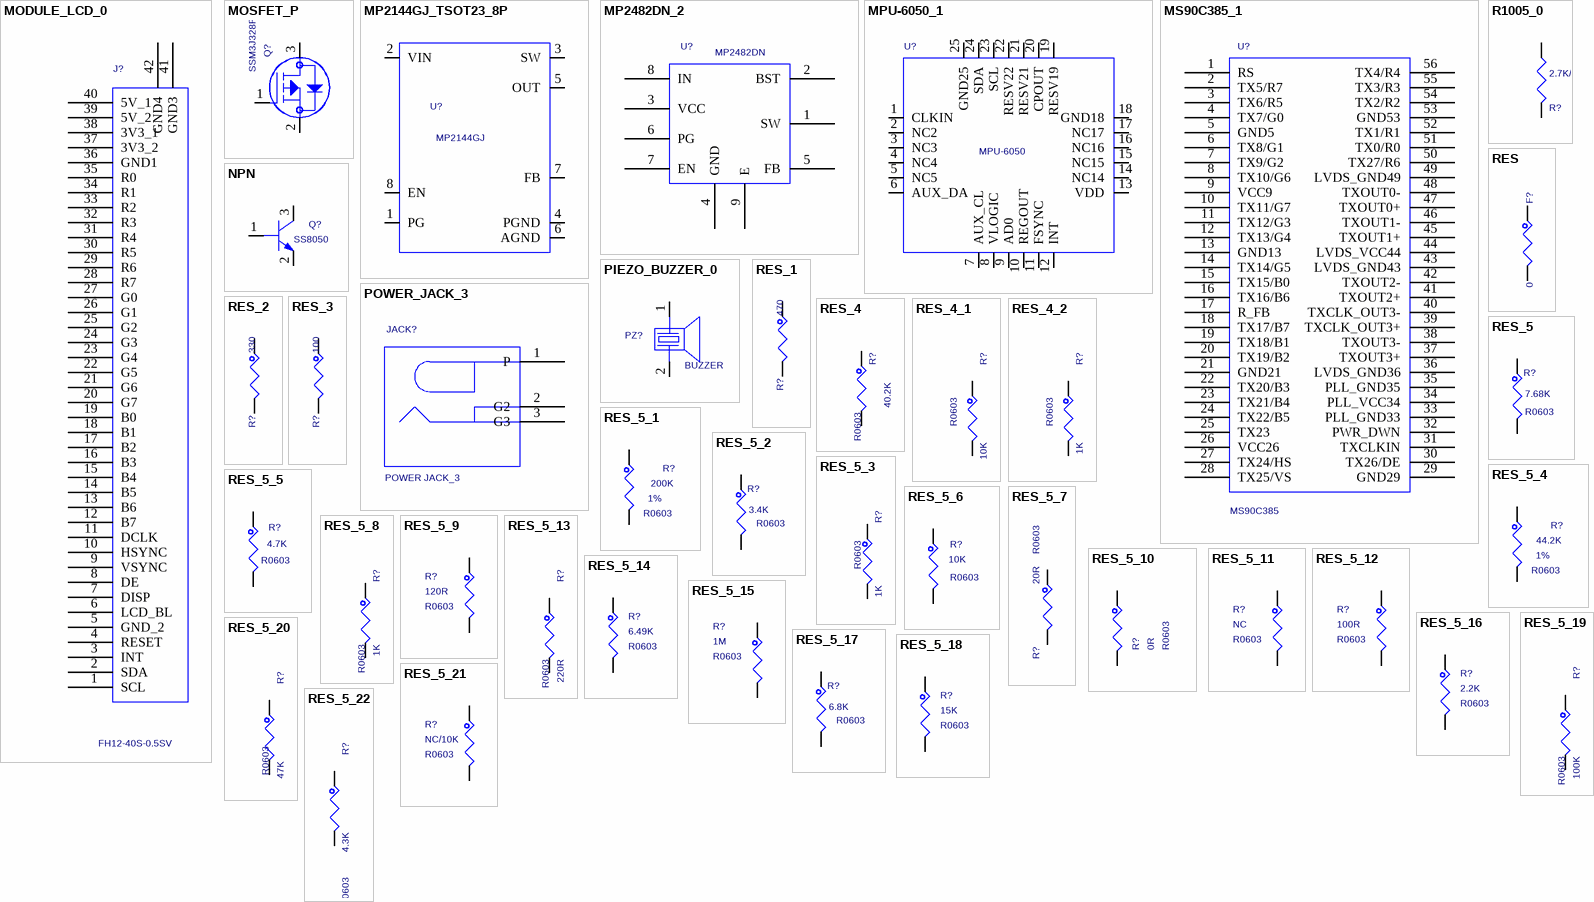
[diagram p2: symbols MODULE_LCD_0 to RES_5_22]

## MODULE_LCD_0
designator J?  value FH12-40S-0.5SV  (hidden comment: MODULE_LCD_0)
SUBASSEMBLY CON 1X40 FPC SMT RA + CON 1X6 FPC/FFC RA SKT + TFT DISPLAY 4.3INCH; CAD_APPROVED: Yes; MFG_PN01: 211-79974,211-79976,375-00010; AGILE_PN: 750-77763; PCB DECAL: FH12-40S-0P5SV; Source_Path: F:\SCH-PCB\EBF_L002\SCH\EBF_L002_0618.DSN; CLASS: IO; HEIGHT: 6.75MM; ROHS: Yes; MFG_NAME01: SUBASSEMBLY
footprint FH12-40S-0P5SV
pins: 1 SCL, 2 SDA, 3 INT, 4 RESET, 5 GND_2, 6 LCD_BL, 7 DISP, 8 DE, 9 VSYNC, 10 HSYNC, 11 DCLK, 12 B7, 13 B6, 14 B5, 15 B4, 16 B3, 17 B2, 18 B1, 19 B0, 20 G7, 21 G6, 22 G5, 23 G4, 24 G3, 25 G2, 26 G1, 27 G0, 28 R7, 29 R6, 30 R5, 31 R4, 32 R3, 33 R2, 34 R1, 35 R0, 36 GND1, 37 3V3_2, 38 3V3_1, 39 5V_2, 40 5V_1, 41 GND3, 42 GND4

## MOSFET_P
designator Q?  value SSM3J328R  (hidden comment: MOSFET_P)
TRAN PMOS PWR 12V 4.3A SOT23; CAD_APPROVED: Yes; MFG_PN01: IRLML6401TRPBF; MFG_NAME01: INTERNATIONAL RECTIFIER; AGILE_PN: 480-77718; Source_Path: Q:\ORCADCIS\SYMBOLS\FCL_SEMICONDUCTOR.OLB; CLASS: IC; PCB DECAL: SOT23; HEIGHT: 1.12MM; ROHS: Yes
footprint SOT23
pins: 1 GATE, 2 SOURCE, 3 DRAIN

## MP2144GJ_TSOT23_8P
designator U?  value MP2144GJ  (hidden comment: MP2144GJ_TSOT23_8P)
IC SYNC STEP-DOWN SW 1.2MHZ 0.6V 2A 2.5-5.5V TSOT23-8; AGILE_PN: 315-80508; MFG_NAME01: MONOLITHIC POWER SYSTEMS; CAD_APPROVED: Yes; Source_Path: Q:\ORCADCIS\SYMBOLS\FCL_IC2.OLB; MFG_PN01: MP2144GJ; ROHS: Yes; HEIGHT: 1MM; PCB DECAL: TSOT23-8; CLASS: IC
footprint TSOT23-8
pins: 1 PG (oc), 2 VIN (power), 3 SW, 4 PGND (power), 5 OUT, 6 AGND (power), 7 FB, 8 EN

## MP2482DN_2
designator U?  value MP2482DN  (hidden comment: MP2482DN_2)
PCB DECAL: SOIC8E; Source_Path: D:\NXP_RT1050\PCB\IMXRT1052-180207\SCH\RT1050_MB_PRO\IMXRT1052_MB_PRO_0320.DSN
footprint SOIC8E
pins: 1 SW, 2 BST, 3 VCC, 4 GND, 5 FB, 6 PG, 7 EN, 8 IN, 9 E (power)

## MPU-6050_1
designator U?  value MPU-6050  (hidden comment: MPU-6050_1)
PCB DECAL: QFN24; Source_Path: H:\NXP_RT1050\SCH\IMXRT1052_MB.DSN
footprint QFN24
pins: 1 CLKIN, 2 NC2, 3 NC3, 4 NC4, 5 NC5, 6 AUX_DA, 7 AUX_CL, 8 VLOGIC, 9 AD0, 10 REGOUT, 11 FSYNC, 12 INT, 13 VDD, 14 NC14, 15 NC15, 16 NC16, 17 NC17, 18 GND18, 19 RESV19, 20 CPOUT, 21 RESV21, 22 RESV22, 23 SCL, 24 SDA, 25 GND25

## MS90C385_1
designator U?  value MS90C385  (hidden comment: MS90C385_1)
PCB DECAL: TSSOP56; Source_Path: F:\STM32\F429\SCH\V4\STM32F429_F767_H743_MB.DSN
footprint TSSOP56
pins: 1 RS, 2 TX5/R7, 3 TX6/R5, 4 TX7/G0, 5 GND5, 6 TX8/G1, 7 TX9/G2, 8 TX10/G6, 9 VCC9, 10 TX11/G7, 11 TX12/G3, 12 TX13/G4, 13 GND13, 14 TX14/G5, 15 TX15/B0, 16 TX16/B6, 17 R_FB, 18 TX17/B7, 19 TX18/B1, 20 TX19/B2, 21 GND21, 22 TX20/B3, 23 TX21/B4, 24 TX22/B5, 25 TX23, 26 VCC26, 27 TX24/HS, 28 TX25/VS, 29 GND29, 30 TX26/DE, 31 TXCLKIN, 32 PWR_DWN, 33 PLL_GND33, 34 PLL_VCC34, 35 PLL_GND35, 36 LVDS_GND36, 37 TXOUT3+, 38 TXOUT3-, 39 TXCLK_OUT3+, 40 TXCLK_OUT3-, 41 TXOUT2+, 42 TXOUT2-, 43 LVDS_GND43, 44 LVDS_VCC44, 45 TXOUT1+, 46 TXOUT1-, 47 TXOUT0+, 48 TXOUT0-, 49 LVDS_GND49, 50 TX27/R6, 51 TX0/R0, 52 TX1/R1, 53 GND53, 54 TX2/R2, 55 TX3/R3, 56 TX4/R4

## NPN
designator Q?  value SS8050  (hidden comment: NPN)
TRAN NPN GEN 0.5A 45V AEC-Q101 SOT23; AGILE_PN: 480-78842; MFG_NAME01: NEXPERIA; MFG_PN01: BC817,215; CAD_APPROVED: Yes; Source_Path: Q:\ORCADCIS\SYMBOLS\FCL_SEMICONDUCTOR.OLB; CLASS: IC; ROHS: Yes; HEIGHT: 1.1 MM; PCB DECAL: SOT23
footprint SOT23
pins: 1 BASE, 2 EMITTER, 3 COLLECTOR

## PIEZO_BUZZER_0
designator PZ?  value BUZZER  (hidden comment: PIEZO_BUZZER_0)
Source_Path: D:\NXP_RT1050\RT1050_MB_PRO\SCH\IMXRT1052_MB_PRO_0417_4.DSN; PCB DECAL: BUZZER
footprint BUZZER
pins: 1 +, 2 -

## POWER_JACK_3
designator JACK?  value POWER JACK_3  (hidden comment: POWER_JACK_3)
PCB DECAL: JACK-2_5MM_B; Source_Path: E:\WORK\SCH5\X\SCH\DEVELOP_BOARD_V1-5-21.DSN
footprint JACK-2_5MM_B
pins: 1 P, 2 G2, 3 G3

## R1005_0
designator R?  value 2.7K/1%  (hidden comment: R1005_0)
PCB DECAL: R0603; Source_Path: D:\SOPGODS_VIEW_AP\MOBILE_AP_APPLICATION\S3C6410\OUTPUT_DATA\HW\SMDK\INTEGRATION_BOARD\SMDK6410_CPU_BD_SCHEMATICS_REV0.0_EDITING.DSN
footprint R0603
pins: 1, 2

## RES
designator F?  value 0  (hidden comment: RES)
RES MF 1.0M 1/10W 5% 0402; PCB DECAL: F0805; FPLIST: RC0402_25,RC0402_HD,0402_CC; CAD_APPROVED: Yes; MFG_PN01: ERJ-2GEJ105X; MFG_NAME01: PANASONIC; AGILE_PN: 470-79978; Source_Path: Q:\ORCADCIS\SYMBOLS\FCL_RESISTOR.OLB; CLASS: DISCRETE; ROHS: Yes; Tolerance: 5%; HEIGHT: 0.4MM
footprint F0805
pins: 1, 2

## RES_1
designator R?, comment value 470  (hidden comment: RES)
RES MF 1.0M 1/10W 5% 0402; FPLIST: RC0402_25,RC0402_HD,0402_CC; CAD_APPROVED: Yes; MFG_PN01: ERJ-2GEJ105X; MFG_NAME01: PANASONIC; AGILE_PN: 470-79978; PCB DECAL: R0603; Source_Path: Q:\ORCADCIS\SYMBOLS\FCL_RESISTOR.OLB; CLASS: DISCRETE; ROHS: Yes; Tolerance: 5%; HEIGHT: 0.4MM
footprint R0603
pins: 1, 2

## RES_2
designator R?, comment value 330  (hidden comment: RES)
RES MF 1.0M 1/10W 5% 0402; FPLIST: RC0402_25,RC0402_HD,0402_CC; CAD_APPROVED: Yes; MFG_PN01: ERJ-2GEJ105X; MFG_NAME01: PANASONIC; AGILE_PN: 470-79978; PCB DECAL: R0603; Source_Path: Q:\ORCADCIS\SYMBOLS\FCL_RESISTOR.OLB; CLASS: DISCRETE; ROHS: Yes; Tolerance: 5%; HEIGHT: 0.4MM
footprint R0603
pins: 1, 2

## RES_3
designator R?, comment value 100  (hidden comment: RES)
RES MF 1.0M 1/10W 5% 0402; FPLIST: RC0402_25,RC0402_HD,0402_CC; CAD_APPROVED: Yes; MFG_PN01: ERJ-2GEJ105X; MFG_NAME01: PANASONIC; AGILE_PN: 470-79978; PCB DECAL: R0603; Source_Path: Q:\ORCADCIS\SYMBOLS\FCL_RESISTOR.OLB; CLASS: DISCRETE; ROHS: Yes; Tolerance: 5%; HEIGHT: 0.4MM
footprint R0603
pins: 1, 2

## RES_4
designator R?  value 40.2K  PCB DECAL: R0603  (hidden comment: RES_4)
RES MF 4.7K 1/16W 5% 0402; CLASS: DISCRETE; FPLIST: RC0402_25,RC0402_HD,0402_CC; CAD_APPROVED: Yes; MFG_PN01: RK73B1ETTP472J; MFG_NAME01: KOA SPEER; AGILE_PN: 470-75626; Source_Path: F:\NXP\RT1020\SCH\IMXRT1021_0928.DSN; HEIGHT: 0.41mm; ROHS: Yes; Tolerance: 5%
footprint R0603
pins: 1, 2

## RES_4_1
designator R?, comment value 10K  PCB DECAL: R0603  (hidden comment: RES_4)
RES MF 4.7K 1/16W 5% 0402; CLASS: DISCRETE; FPLIST: RC0402_25,RC0402_HD,0402_CC; CAD_APPROVED: Yes; MFG_PN01: RK73B1ETTP472J; MFG_NAME01: KOA SPEER; AGILE_PN: 470-75626; Source_Path: F:\NXP\RT1020\SCH\IMXRT1021_0928.DSN; HEIGHT: 0.41mm; ROHS: Yes; Tolerance: 5%
footprint R0603
pins: 1, 2

## RES_4_2
designator R?, comment value 1K  PCB DECAL: R0603  (hidden comment: RES_4)
RES MF 4.7K 1/16W 5% 0402; CLASS: DISCRETE; FPLIST: RC0402_25,RC0402_HD,0402_CC; CAD_APPROVED: Yes; MFG_PN01: RK73B1ETTP472J; MFG_NAME01: KOA SPEER; AGILE_PN: 470-75626; Source_Path: F:\NXP\RT1020\SCH\IMXRT1021_0928.DSN; HEIGHT: 0.41mm; ROHS: Yes; Tolerance: 5%
footprint R0603
pins: 1, 2

## RES_5
designator R?  value 7.68K  PCB DECAL: R0603  (hidden comment: RES_5)
RES MF 4.7K 1/16W 5% 0402; FPLIST: RC0402_25,RC0402_HD,0402_CC; CAD_APPROVED: Yes; MFG_PN01: RK73B1ETTP472J; MFG_NAME01: KOA SPEER; AGILE_PN: 470-75626; Source_Path: F:\NXP\RT1020\SCH\IMXRT1021_0928_1.DSN; CLASS: DISCRETE; HEIGHT: 0.41mm; ROHS: Yes; Tolerance: 5%
footprint R0603
pins: 1, 2

## RES_5_1
designator R?, comment value 200K  PCB DECAL: R0603  Tolerance: 1%  (hidden comment: RES_5)
RES MF 180K 1/10W 1% AEC-Q200 0402; AGILE_PN: 470-31088; MFG_NAME01: KOA SPEER; MFG_PN01: RK73H1ETTP1803F; CAD_APPROVED: Yes; FPLIST: RC0402_25,RC0402_HD,0402_CC; Temp_Range: -55C to +155C; Source_Path: F:\NXP\RT1020\SCH\IMXRT1021_0928_1.DSN; CLASS: DISCRETE; ROHS: Yes; HEIGHT: 0.40 MM
footprint R0603
pins: 1, 2

## RES_5_2
designator R?, comment value 3.4K  PCB DECAL: R0603  (hidden comment: RES_5)
RES MF 4.7K 1/16W 5% 0402; FPLIST: RC0402_25,RC0402_HD,0402_CC; CAD_APPROVED: Yes; MFG_PN01: RK73B1ETTP472J; MFG_NAME01: KOA SPEER; AGILE_PN: 470-75626; Source_Path: F:\NXP\RT1020\SCH\IMXRT1021_0928_1.DSN; CLASS: DISCRETE; HEIGHT: 0.41mm; ROHS: Yes; Tolerance: 5%
footprint R0603
pins: 1, 2

## RES_5_3
designator R?, comment value 1K  PCB DECAL: R0603  (hidden comment: RES_5)
RES MF ZERO OHM 1/16W 5% 0402; FPLIST: RC0402_25,RC0402_HD,RC0402_X2,0402_CC; CAD_APPROVED: Yes; MFG_PN01: MCR01MZPJ000; MFG_NAME01: ROHM; AGILE_PN: 470-75394; Source_Path: F:\NXP\RT1020\SCH\IMXRT1021_0928_1.DSN; CLASS: DISCRETE; ROHS: Yes; Tolerance: 5%; HEIGHT: 0.45 MM
footprint R0603
pins: 1, 2

## RES_5_4
designator R?, comment value 44.2K  PCB DECAL: R0603  Tolerance: 1%  (hidden comment: RES_5)
RES MF 180K 1/10W 1% AEC-Q200 0402; AGILE_PN: 470-31088; MFG_NAME01: KOA SPEER; MFG_PN01: RK73H1ETTP1803F; CAD_APPROVED: Yes; FPLIST: RC0402_25,RC0402_HD,0402_CC; Temp_Range: -55C to +155C; Source_Path: F:\NXP\RT1020\SCH\IMXRT1021_0928_1.DSN; CLASS: DISCRETE; ROHS: Yes; HEIGHT: 0.40 MM
footprint R0603
pins: 1, 2

## RES_5_5
designator R?, comment value 4.7K  PCB DECAL: R0603  (hidden comment: RES_5)
RES MF 4.7K 1/16W 5% 0402; AGILE_PN: 470-75626; MFG_NAME01: KOA SPEER; MFG_PN01: RK73B1ETTP472J; CAD_APPROVED: Yes; FPLIST: RC0402_25,RC0402_HD,0402_CC; Source_Path: F:\NXP\RT1020\SCH\IMXRT1021_0928_1.DSN; CLASS: DISCRETE; Tolerance: 5%; ROHS: Yes; HEIGHT: 0.41mm
footprint R0603
pins: 1, 2

## RES_5_6
designator R?, comment value 10K  PCB DECAL: R0603  (hidden comment: RES_5)
RES MF 4.7K 1/16W 5% 0402; AGILE_PN: 470-75626; MFG_NAME01: KOA SPEER; MFG_PN01: RK73B1ETTP472J; CAD_APPROVED: Yes; FPLIST: RC0402_25,RC0402_HD,0402_CC; Source_Path: F:\NXP\RT1020\SCH\IMXRT1021_0928_1.DSN; CLASS: DISCRETE; Tolerance: 5%; ROHS: Yes; HEIGHT: 0.41mm
footprint R0603
pins: 1, 2

## RES_5_7
designator R?, comment value 20R  PCB DECAL: R0603  (hidden comment: RES_5)
RES MF 4.7K 1/16W 5% 0402; AGILE_PN: 470-75626; MFG_NAME01: KOA SPEER; MFG_PN01: RK73B1ETTP472J; CAD_APPROVED: Yes; FPLIST: RC0402_25,RC0402_HD,0402_CC; Source_Path: F:\NXP\RT1020\SCH\IMXRT1021_0928_1.DSN; CLASS: DISCRETE; Tolerance: 5%; ROHS: Yes; HEIGHT: 0.41mm
footprint R0603
pins: 1, 2

## RES_5_8
designator R?, comment value 1K  PCB DECAL: R0603  (hidden comment: RES_5)
RES MF 4.7K 1/16W 5% 0402; AGILE_PN: 470-75626; MFG_NAME01: KOA SPEER; MFG_PN01: RK73B1ETTP472J; CAD_APPROVED: Yes; FPLIST: RC0402_25,RC0402_HD,0402_CC; Source_Path: F:\NXP\RT1020\SCH\IMXRT1021_0928_1.DSN; CLASS: DISCRETE; Tolerance: 5%; ROHS: Yes; HEIGHT: 0.41mm
footprint R0603
pins: 1, 2

## RES_5_9
designator R?, comment value 120R  PCB DECAL: R0603  (hidden comment: RES_5)
RES MF 4.7K 1/16W 5% 0402; AGILE_PN: 470-75626; MFG_NAME01: KOA SPEER; MFG_PN01: RK73B1ETTP472J; CAD_APPROVED: Yes; FPLIST: RC0402_25,RC0402_HD,0402_CC; Source_Path: F:\NXP\RT1020\SCH\IMXRT1021_0928_1.DSN; CLASS: DISCRETE; Tolerance: 5%; ROHS: Yes; HEIGHT: 0.41mm
footprint R0603
pins: 1, 2

## RES_5_10
designator R?, comment value 0R  PCB DECAL: R0603  (hidden comment: RES_5)
RES MF 4.7K 1/16W 5% 0402; AGILE_PN: 470-75626; MFG_NAME01: KOA SPEER; MFG_PN01: RK73B1ETTP472J; CAD_APPROVED: Yes; FPLIST: RC0402_25,RC0402_HD,0402_CC; Source_Path: F:\NXP\RT1020\SCH\IMXRT1021_0928_1.DSN; CLASS: DISCRETE; Tolerance: 5%; ROHS: Yes; HEIGHT: 0.41mm
footprint R0603
pins: 1, 2

## RES_5_11
designator R?, comment value NC  PCB DECAL: R0603  (hidden comment: RES_5)
RES MF 4.7K 1/16W 5% 0402; FPLIST: RC0402_25,RC0402_HD,0402_CC; CAD_APPROVED: Yes; MFG_PN01: RK73B1ETTP472J; MFG_NAME01: KOA SPEER; AGILE_PN: 470-75626; Source_Path: F:\NXP\RT1020\SCH\IMXRT1021_0928_1.DSN; CLASS: DISCRETE; HEIGHT: 0.41mm; ROHS: Yes; Tolerance: 5%
footprint R0603
pins: 1, 2

## RES_5_12
designator R?, comment value 100R  PCB DECAL: R0603  (hidden comment: RES_5)
RES MF 4.7K 1/16W 5% 0402; FPLIST: RC0402_25,RC0402_HD,0402_CC; CAD_APPROVED: Yes; MFG_PN01: RK73B1ETTP472J; MFG_NAME01: KOA SPEER; AGILE_PN: 470-75626; Source_Path: F:\NXP\RT1020\SCH\IMXRT1021_0928_1.DSN; CLASS: DISCRETE; HEIGHT: 0.41mm; ROHS: Yes; Tolerance: 5%
footprint R0603
pins: 1, 2

## RES_5_13
designator R?, comment value 220R  PCB DECAL: R0603  (hidden comment: RES_5)
RES MF 4.7K 1/16W 5% 0402; FPLIST: RC0402_25,RC0402_HD,0402_CC; CAD_APPROVED: Yes; MFG_PN01: RK73B1ETTP472J; MFG_NAME01: KOA SPEER; AGILE_PN: 470-75626; Source_Path: F:\NXP\RT1020\SCH\IMXRT1021_0928_1.DSN; CLASS: DISCRETE; HEIGHT: 0.41mm; ROHS: Yes; Tolerance: 5%
footprint R0603
pins: 1, 2

## RES_5_14
designator R?, comment value 6.49K  PCB DECAL: R0603  (hidden comment: RES_5)
RES MF 4.7K 1/16W 5% 0402; AGILE_PN: 470-75626; MFG_NAME01: KOA SPEER; MFG_PN01: RK73B1ETTP472J; CAD_APPROVED: Yes; FPLIST: RC0402_25,RC0402_HD,0402_CC; Source_Path: F:\NXP\RT1020\SCH\IMXRT1021_0928_1.DSN; CLASS: DISCRETE; Tolerance: 5%; ROHS: Yes; HEIGHT: 0.41mm
footprint R0603
pins: 1, 2

## RES_5_15
designator R?, comment value 1M  PCB DECAL: R0603  (hidden comment: RES_5)
RES MF 4.7K 1/16W 5% 0402; FPLIST: RC0402_25,RC0402_HD,0402_CC; CAD_APPROVED: Yes; MFG_PN01: RK73B1ETTP472J; MFG_NAME01: KOA SPEER; AGILE_PN: 470-75626; Source_Path: F:\NXP\RT1020\SCH\IMXRT1021_0928_1.DSN; CLASS: DISCRETE; HEIGHT: 0.41mm; ROHS: Yes; Tolerance: 5%
footprint R0603
pins: 1, 2

## RES_5_16
designator R?, comment value 2.2K  PCB DECAL: R0603  (hidden comment: RES_5)
RES MF 4.7K 1/16W 5% 0402; FPLIST: RC0402_25,RC0402_HD,0402_CC; CAD_APPROVED: Yes; MFG_PN01: RK73B1ETTP472J; MFG_NAME01: KOA SPEER; AGILE_PN: 470-75626; Source_Path: F:\NXP\RT1020\SCH\IMXRT1021_0928_1.DSN; CLASS: DISCRETE; HEIGHT: 0.41mm; ROHS: Yes; Tolerance: 5%
footprint R0603
pins: 1, 2

## RES_5_17
designator R?, comment value 6.8K  PCB DECAL: R0603  (hidden comment: RES_5)
RES MF 4.7K 1/16W 5% 0402; FPLIST: RC0402_25,RC0402_HD,0402_CC; CAD_APPROVED: Yes; MFG_PN01: RK73B1ETTP472J; MFG_NAME01: KOA SPEER; AGILE_PN: 470-75626; Source_Path: F:\NXP\RT1020\SCH\IMXRT1021_0928_1.DSN; CLASS: DISCRETE; HEIGHT: 0.41mm; ROHS: Yes; Tolerance: 5%
footprint R0603
pins: 1, 2

## RES_5_18
designator R?, comment value 15K  PCB DECAL: R0603  (hidden comment: RES_5)
RES MF 4.7K 1/16W 5% 0402; AGILE_PN: 470-75626; MFG_NAME01: KOA SPEER; MFG_PN01: RK73B1ETTP472J; CAD_APPROVED: Yes; FPLIST: RC0402_25,RC0402_HD,0402_CC; Source_Path: F:\NXP\RT1020\SCH\IMXRT1021_0928_1.DSN; CLASS: DISCRETE; Tolerance: 5%; ROHS: Yes; HEIGHT: 0.41mm
footprint R0603
pins: 1, 2

## RES_5_19
designator R?, comment value 100K  PCB DECAL: R0603  (hidden comment: RES_5)
RES MF 4.7K 1/16W 5% 0402; FPLIST: RC0402_25,RC0402_HD,0402_CC; CAD_APPROVED: Yes; MFG_PN01: RK73B1ETTP472J; MFG_NAME01: KOA SPEER; AGILE_PN: 470-75626; Source_Path: F:\NXP\RT1020\SCH\IMXRT1021_0928_1.DSN; CLASS: DISCRETE; HEIGHT: 0.41mm; ROHS: Yes; Tolerance: 5%
footprint R0603
pins: 1, 2

## RES_5_20
designator R?, comment value 47K  PCB DECAL: R0603  (hidden comment: RES_5)
RES MF 4.7K 1/16W 5% 0402; FPLIST: RC0402_25,RC0402_HD,0402_CC; CAD_APPROVED: Yes; MFG_PN01: RK73B1ETTP472J; MFG_NAME01: KOA SPEER; AGILE_PN: 470-75626; Source_Path: F:\NXP\RT1020\SCH\IMXRT1021_0928_1.DSN; CLASS: DISCRETE; HEIGHT: 0.41mm; ROHS: Yes; Tolerance: 5%
footprint R0603
pins: 1, 2

## RES_5_21
designator R?, comment value NC/10K  PCB DECAL: R0603  (hidden comment: RES_5)
RES MF 4.7K 1/16W 5% 0402; AGILE_PN: 470-75626; MFG_NAME01: KOA SPEER; MFG_PN01: RK73B1ETTP472J; CAD_APPROVED: Yes; FPLIST: RC0402_25,RC0402_HD,0402_CC; Source_Path: F:\NXP\RT1020\SCH\IMXRT1021_0928_1.DSN; CLASS: DISCRETE; Tolerance: 5%; ROHS: Yes; HEIGHT: 0.41mm
footprint R0603
pins: 1, 2

## RES_5_22
designator R?, comment value 4.3K  PCB DECAL: R0603  (hidden comment: RES_5)
RES MF 4.7K 1/16W 5% 0402; FPLIST: RC0402_25,RC0402_HD,0402_CC; CAD_APPROVED: Yes; MFG_PN01: RK73B1ETTP472J; MFG_NAME01: KOA SPEER; AGILE_PN: 470-75626; Source_Path: F:\NXP\RT1020\SCH\IMXRT1021_0928_1.DSN; CLASS: DISCRETE; HEIGHT: 0.41mm; ROHS: Yes; Tolerance: 5%
footprint R0603
pins: 1, 2

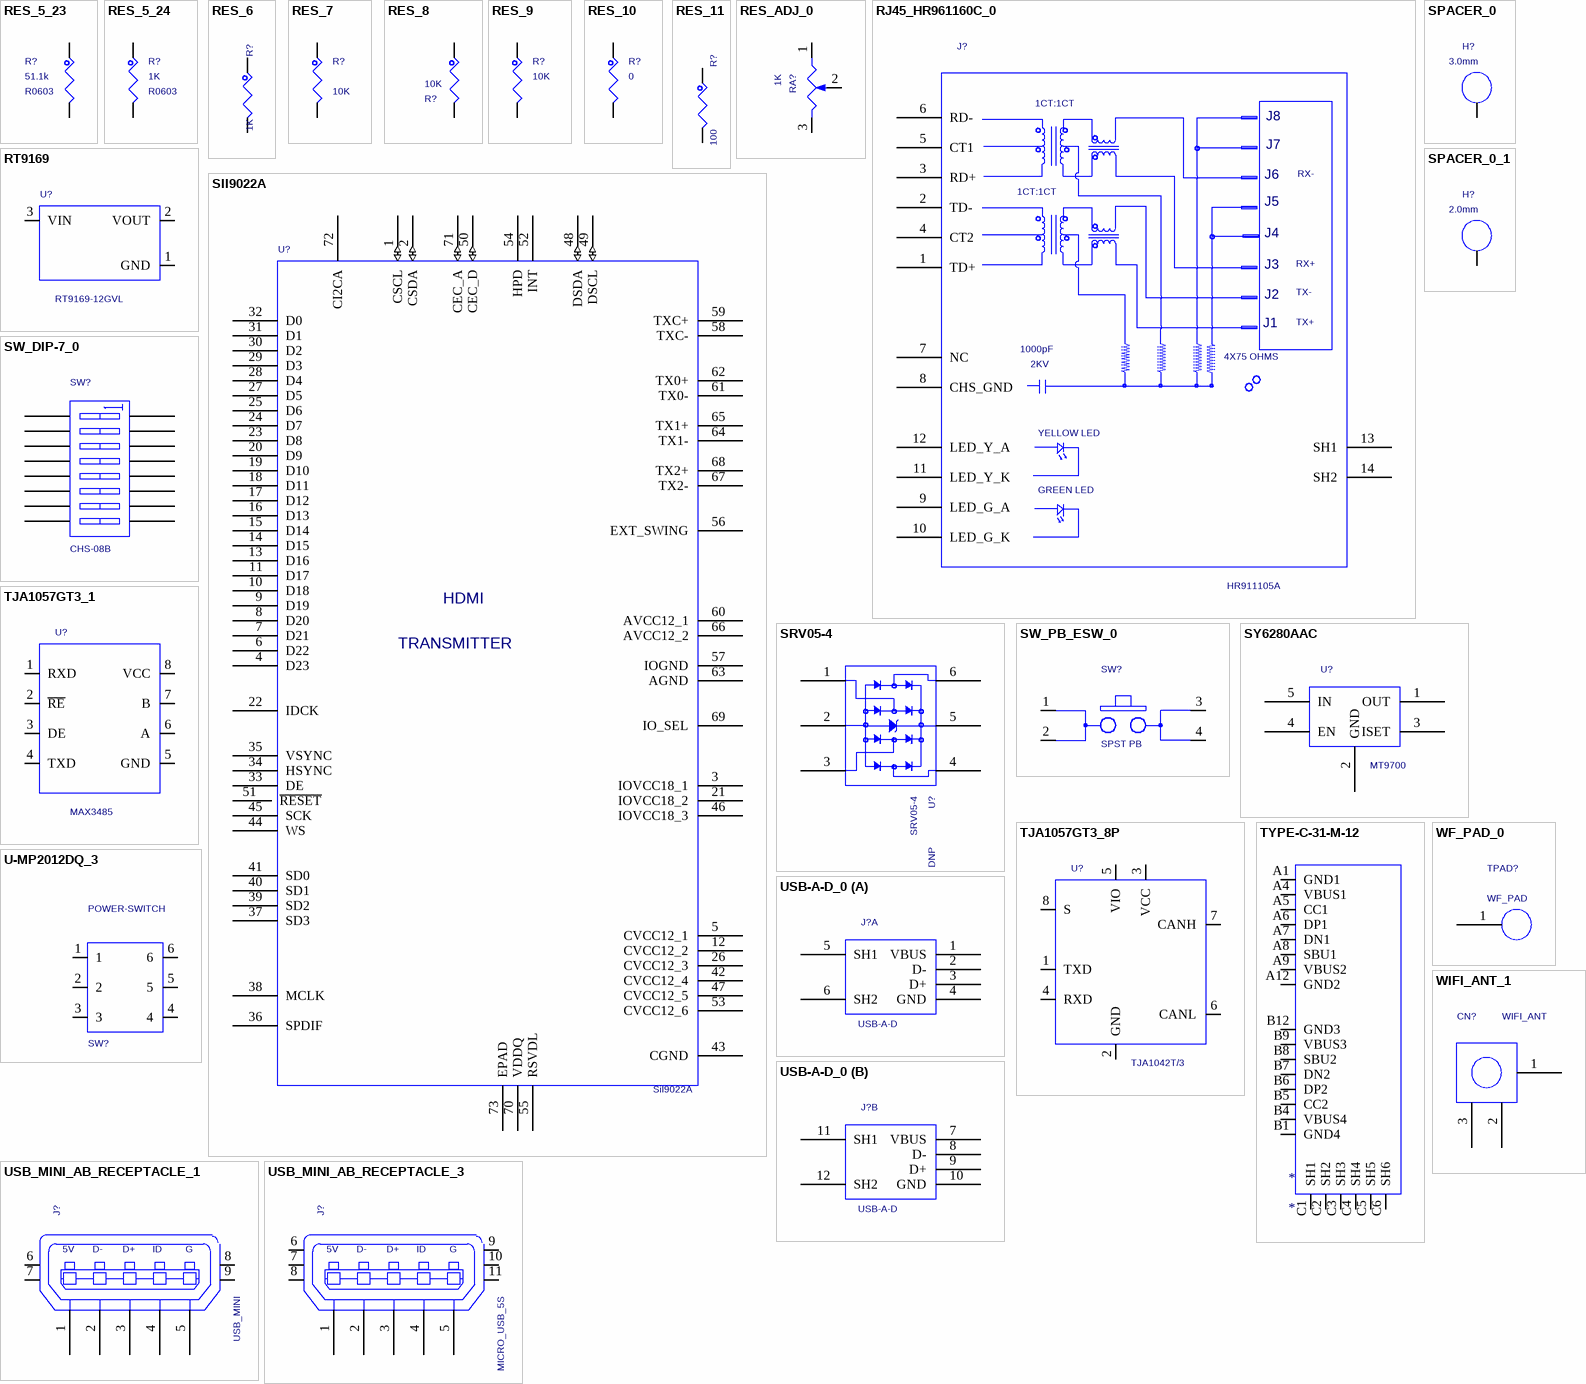
[diagram p3: symbols RES_5_23 to WIFI_ANT_1]

## RES_5_23
designator R?, comment value 51.1k  PCB DECAL: R0603  (hidden comment: RES_5)
RES MF 4.7K 1/16W 5% 0402; FPLIST: RC0402_25,RC0402_HD,0402_CC; CAD_APPROVED: Yes; MFG_PN01: RK73B1ETTP472J; MFG_NAME01: KOA SPEER; AGILE_PN: 470-75626; Source_Path: F:\NXP\RT1020\SCH\IMXRT1021_0928_1.DSN; CLASS: DISCRETE; HEIGHT: 0.41mm; ROHS: Yes; Tolerance: 5%
footprint R0603
pins: 1, 2

## RES_5_24
designator R?, comment value 1K  PCB DECAL: R0603  (hidden comment: RES_5)
RES MF 10K 1/16W 5% 0402; FPLIST: RC0402_25,RC0402_HD,0402_CC; CAD_APPROVED: Yes; MFG_PN01: CRCW040210K0JNED; MFG_NAME01: VISHAY INTERTECHNOLOGY; AGILE_PN: 470-75557; Source_Path: F:\NXP\RT1020\SCH\IMXRT1021_0928_1.DSN; CLASS: DISCRETE; ROHS: Yes; Tolerance: 5%; TOL: 5%; HEIGHT: 0.4 MM
footprint R0603
pins: 1, 2

## RES_6
designator R?, comment value 1K  (hidden comment: RES)
RES MF 1.0M 1/10W 5% 0402; AGILE_PN: 470-79978; MFG_NAME01: PANASONIC; MFG_PN01: ERJ-2GEJ105X; CAD_APPROVED: Yes; FPLIST: RC0402_25,RC0402_HD,0402_CC; PCB DECAL: R0603; Source_Path: Q:\ORCADCIS\SYMBOLS\FCL_RESISTOR.OLB; CLASS: DISCRETE; HEIGHT: 0.4MM; Tolerance: 5%; ROHS: Yes
footprint R0603
pins: 1, 2

## RES_7
designator R?, comment value 10K  (hidden comment: RES)
RES MF 10.0K 1/16W 1% AEC-Q200 0402; CLASS: DISCRETE; FPLIST: RC0402_25,RC0402_HD,0402_CC; CAD_APPROVED: Yes; MFG_PN01: RK73H1ETTP1002F; MFG_NAME01: KOA SPEER; AGILE_PN: 470-75416; SIGNAL_MODEL: DEFAULT_RESISTOR_10000OHM_2_1; PCB DECAL: R0603; Source_Path: Q:\ORCADCIS\SYMBOLS\FCL_RESISTOR.OLB; ROHS: Yes; Tolerance: 1%
footprint R0603
pins: 1, 2

## RES_8
designator R?, comment value 10K  (hidden comment: RES)
RES MF 1.0M 1/10W 5% 0402; PCB DECAL: R0603; FPLIST: RC0402_25,RC0402_HD,0402_CC; CAD_APPROVED: Yes; MFG_PN01: ERJ-2GEJ105X; MFG_NAME01: PANASONIC; AGILE_PN: 470-79978; Source_Path: Q:\ORCADCIS\SYMBOLS\FCL_RESISTOR.OLB; CLASS: DISCRETE; ROHS: Yes; Tolerance: 5%; HEIGHT: 0.4MM
footprint R0603
pins: 1, 2

## RES_9
designator R?, comment value 10K  (hidden comment: RES)
RES MF 10K 1/16W 5% 0402; AGILE_PN: 470-75557; MFG_NAME01: VISHAY INTERTECHNOLOGY; MFG_PN01: CRCW040210K0JNED; CAD_APPROVED: Yes; FPLIST: RC0402_25,RC0402_HD,0402_CC; PCB DECAL: R0603; Source_Path: Q:\ORCADCIS\SYMBOLS\FCL_RESISTOR.OLB; CLASS: DISCRETE; Tolerance: 5%; ROHS: Yes; HEIGHT: 0.4 MM
footprint R0603
pins: 1, 2

## RES_10
designator R?, comment value 0  (hidden comment: RES)
RES MF ZERO OHM 1/8W -- 0805; PCB DECAL: R0805; AGILE_PN: 470-75442; Tolerance: 5%; MFG_NAME01: YAGEO AMERICA; MFG_PN01: RC0805JR-070RL; CAD_APPROVED: Yes; FPLIST: RC0805_OV,RC0805,RC0805_OV_3P,0805_CC; Source_Path: Q:\ORCADCIS\SYMBOLS\FCL_RESISTOR.OLB; CLASS: DISCRETE; ROHS: Yes; HEIGHT: 0.7 MM
footprint R0805
pins: 1, 2

## RES_11
designator R?, comment value 100  (hidden comment: RES)
RES MF 100 OHM 1/16W 1% 0402; FPLIST: RC0402_25,RC0402_HD,0402_CC; CAD_APPROVED: Yes; MFG_PN01: CR-02FL6--100R; MFG_NAME01: THYE MING TECH CO LTD; AGILE_PN: 470-30454; PCB DECAL: R0603; Source_Path: Q:\ORCADCIS\SYMBOLS\FCL_RESISTOR.OLB; CLASS: DISCRETE; ROHS: Yes; Tolerance: 1%; HEIGHT: 0.4 MM
footprint R0603
pins: 1, 2

## RES_ADJ_0
designator RA?  value 1K  (hidden comment: RES_ADJ_0)
Single Turn Top Adjust, 3362P; Partname: DIP可调电阻 3362; Mfr: Bourns; Mfr_Part_Number: 3362P-1-203LF; Part_Number: RE700010-01; PCB DECAL: RM065-V1; Spec: 20K,3362P-1-203LF(Bourns); Remarks: Checked; Gtech_Number: 50700011202KR0201; Power: 1/2W; Source_Path: D:\NXP_RT1050\PCB\IMXRT1052-180207\SCH\RT1050_MB_PRO\IMXRT1052_MB_PRO_0502.DSN
footprint RM065-V1
pins: 1, 2, 3

## RJ45_HR961160C_0
designator J?  value HR911105A  (hidden comment: RJ45_HR961160C_0)
CON 12 RJ45 SHLD RA SM 1.02MM SP 625H --; AGILE_PN: 211-79967; MFG_NAME01: HanRun Electronics Co., Ltd; CAD_APPROVED: Yes; Source_Path: H:\NXP_RT1050\SCH\IMXRT1052_MB.DSN; CLASS: IO; PCB DECAL: RJ45; MFG_PN01: HR961160C; ROHS: Yes; HEIGHT: 15.88 MM
footprint RJ45
pins: 1 TD+, 2 TD-, 3 RD+, 4 CT2, 5 CT1, 6 RD-, 7 NC, 8 CHS_GND, 9 LED_G_A, 10 LED_G_K, 11 LED_Y_K, 12 LED_Y_A, 13 SH1, 14 SH2
text: 1CT:1CT; J8; J7; RX-; J6; J5; J4; RX+; J3; TX-; J2; TX+; J1; 1000pF; 4X75 OHMS; 2KV; YELLOW LED; GREEN LED

## RT9169
designator U?  value RT9169-12GVL  (hidden comment: RT9169)
PCB DECAL: SOT23; Source_Path: F:\NXP\I.MX6UL\SCH\IMX6UL.OLB; CLASS: IC
footprint SOT23
pins: 1 GND (power), 2 VOUT, 3 VIN

## SII9022A
designator U?
IC XMTR HDMI 165MHZ 1.8/3.3V QFN72; PCB DECAL: QFN72_0P5_10X10_4P85SQ; CAD_APPROVED: Yes; ASSY_OPT: DNP; MFG_PN01: SiI9022ACNU; MFG_NAME01: SILICON IMAGE; AGILE_PN: 312-79886; Source_Path: Q:\ORCADCIS\SYMBOLS\FCL_IC4.OLB; HEIGHT: 0.9MM; ROHS: Yes; VALUE: SiI9022A; CLASS: IC
footprint QFN72_0P5_10X10_4P85SQ
pins: 1 CSCL (io), 2 CSDA (io), 3 IOVCC18_1 (power), 4 D23, 5 CVCC12_1 (power), 6 D22, 7 D21, 8 D20, 9 D19, 10 D18, 11 D17, 12 CVCC12_2 (power), 13 D16, 14 D15, 15 D14, 16 D13, 17 D12, 18 D11, 19 D10, 20 D9, 21 IOVCC18_2 (power), 22 IDCK, 23 D8, 24 D7, 25 D6, 26 CVCC12_3 (power), 27 D5, 28 D4, 29 D3, 30 D2, 31 D1, 32 D0, 33 DE, 34 HSYNC, 35 VSYNC, 36 SPDIF, 37 SD3, 38 MCLK, 39 SD2, 40 SD1, 41 SD0, 42 CVCC12_4 (power), 43 CGND (power), 44 WS, 45 SCK, 46 IOVCC18_3 (power), 47 CVCC12_5 (power), 48 DSDA (io), 49 DSCL (io), 50 CEC_D (io), 51 ~{RESET}, 52 INT, 53 CVCC12_6 (power), 54 HPD, 55 RSVDL, 56 EXT_SWING, 57 IOGND (power), 58 TXC-, 59 TXC+, 60 AVCC12_1 (power), 61 TX0-, 62 TX0+, 63 AGND (power), 64 TX1-, 65 TX1+, 66 AVCC12_2 (power), 67 TX2-, 68 TX2+, 69 IO_SEL, 70 VDDQ (power), 71 CEC_A (io), 72 CI2CA, 73 EPAD (power)
text: HDMI; TRANSMITTER

## SPACER_0
designator H?  value 3.0mm  (hidden comment: SPACER_0)
FASTENER, STANDOFF 4.5MMX3.53XM3.0X0.5 ROUND THR .635"L BRASS; PCB DECAL: T4R2-6R2_BOTSMT; CAD_APPROVED: Yes; ASSY_OPT: DNP; MFG_PN01: MSS251-R-1-A-16; MFG_NAME01: UNICORP; AGILE_PN: 280-76498; Source_Path: H:\NXP_RT1050\SCH\IMXRT1052.DSN; CLASS: IC; HEIGHT: 16.13MM; ROHS: Yes
footprint T4R2-6R2_BOTSMT
pins: 1 NC_1

## SPACER_0_1
designator H?, comment value 2.0mm  (hidden comment: SPACER_0)
FASTENER, STANDOFF 4.5MMX3.53XM3.0X0.5 ROUND THR .635"L BRASS; PCB DECAL: T3R2-5R2_TOPSMT; CAD_APPROVED: Yes; ASSY_OPT: DNP; MFG_PN01: MSS251-R-1-A-16; MFG_NAME01: UNICORP; AGILE_PN: 280-76498; Source_Path: H:\NXP_RT1050\SCH\IMXRT1052.DSN; CLASS: IC; HEIGHT: 16.13MM; ROHS: Yes
footprint T3R2-5R2_TOPSMT
pins: 1 NC_1

## SRV05-4
designator U?  ASSY_OPT: DNP  (hidden comment: SRV05-4)
DIODE TVS ARRAY 12A 5V 300W SOT23_S6; CAD_APPROVED: Yes; MFG_PN01: SRV05-4.TCT; MFG_NAME01: SEMTECH CORP; AGILE_PN: 480-75205; Source_Path: Q:\ORCADCIS\SYMBOLS\FCL_SEMICONDUCTOR.OLB; CLASS: IC; PCB DECAL: SOT23_S6; HEIGHT: 1.45mm; ROHS: Yes; Value: SRV05-4
footprint SOT23_S6
pins: 1 I/O1, 2 GND, 3 I/O3, 4 I/O4, 5 VCC, 6 I/O6

## SW_DIP-7_0
designator SW?  value CHS-08B  (hidden comment: SW_DIP-7_0)
Source_Path: F:\SCH-PCB\EBF_L002\SCH\EBF_L002.DSN; PCB DECAL: CHS-08B
footprint CHS-08B
pins: 1 A1, 2 A2, 3 A3, 4 A4, 5 A5, 6 A6, 7 A7, 8 A8, 9 B8, 10 B7, 11 B6, 12 B5, 13 B4, 14 B3, 15 B2, 16 B1

## SW_PB_ESW_0
designator SW?  value SPST PB  (hidden comment: SW_PB_ESW_0)
SW SPST MOM NO PB TACT 50mA 50V SMT; CAD_APPROVED: Yes; MFG_PN01: TL3301AF260QG/TR; MFG_NAME01: E SWITCH; AGILE_PN: 510-77562; PCB DECAL: SW4_PB_ESW_SM_P177; Source_Path: H:\NXP_RT1050\SCH\IMXRT1052_MB.DSN; CLASS: IC; HEIGHT: 5MM; ROHS: Yes
footprint SW4_PB_ESW_SM_P177
pins: 1 A1, 2 A2, 3 B1, 4 B2

## SY6280AAC
designator U?  value MT9700  (hidden comment: SY6280AAC)
PCB DECAL: SOT23-5; Source_Path: G:\开发板代码\郭老师资料\IMX6资料\原理图\SABRESDB_DESIGNFILES\DEVELOP\LIBRARY1.OLB
footprint SOT23-5
pins: 1 OUT, 2 GND, 3 ISET, 4 EN, 5 IN

## TJA1057GT3_1
designator U?  value MAX3485  (hidden comment: TJA1057GT3_1)
IC XCVR CAN 4.75-5.25V/2.95-5.25V AEC-Q100 SO8; PCB DECAL: SOP8; AGILE_PN: 312-81479; MFG_NAME01: NXP SEMICONDUCTORS; MFG_PN01: TJA1057GT/3; CAD_APPROVED: Yes; Source_Path: H:\NXP_RT1050\SCH\IMXRT1052_MB.DSN; ROHS: Yes; HEIGHT: 1.75MM; CLASS: IC
footprint SOP8
pins: 1 RXD, 2 ~{RE}, 3 DE, 4 TXD, 5 GND, 6 A, 7 B, 8 VCC

## TJA1057GT3_8P
designator U?  value TJA1042T/3  (hidden comment: TJA1057GT3_8P)
IC XCVR CAN 4.75-5.25V/2.95-5.25V AEC-Q100 SO8; CAD_APPROVED: Yes; MFG_PN01: TJA1057GT/3; MFG_NAME01: NXP SEMICONDUCTORS; AGILE_PN: 312-81479; PCB DECAL: SOP8; Source_Path: Q:\ORCADCIS\SYMBOLS\FCL_IC5.OLB; HEIGHT: 1.75MM; ROHS: Yes; CLASS: IC
footprint SOP8
pins: 1 TXD, 2 GND (power), 3 VCC (power), 4 RXD, 5 VIO (power), 6 CANL (io), 7 CANH (io), 8 S

## TYPE-C-31-M-12
designator *
pins: A1 GND1, A4 VBUS1, A5 CC1, A6 DP1, A7 DN1, A8 SBU1, A9 VBUS2, A12 GND2, B1 GND4, B4 VBUS4, B5 CC2, B6 DP2, B7 DN2, B8 SBU2, B9 VBUS3, B12 GND3, C1 SH1, C2 SH2, C3 SH3, C4 SH4, C5 SH5, C6 SH6

## U-MP2012DQ_3
designator SW?  value POWER-SWITCH  (hidden comment: U-MP2012DQ_3)
PCB DECAL: SWITCH_8P5X8P5; Source_Path: F:\SCH-PCB\EBF_L007\SCH\EBF_L007_190722_1.DSN
footprint SWITCH_8P5X8P5
pins: 1, 2, 3, 4, 5, 6

## USB-A-D_0
designator J?  value USB-A-D  (hidden comment: USB-A-D_0)
Source_Path: D:\NXP_RT1050\RT1050_MB_PRO\SCH\IMXRT1052_MB_PRO_0313.DSN; PCB DECAL: USB-A-D
footprint USB-A-D
part A pins: 1 VBUS, 2 D-, 3 D+, 4 GND, 5 SH1, 6 SH2
part B pins: 7 VBUS, 8 D-, 9 D+, 10 GND, 11 SH1, 12 SH2

## USB_MINI_AB_RECEPTACLE_1
designator J?  value USB_MINI  (hidden comment: USB_MINI_AB_RECEPTACLE_1)
CON 5 USB MICRO_AB RA SKT SMT 0.65MM SP 110H AU; AGILE_PN: 211-80104; MFG_NAME01: ANYTRONIC CORPORATION LIMITED; MFG_PN01: 23970101#LCP-58LF; Temp_Range: -55&#8451; to 105&#8451;; CAD_APPROVED: Yes; PCB DECAL: MINI_USB_5S; Source_Path: D:\NXP_RT1050\RT1050_MB_PRO\SCH\IMXRT1052_MB_PRO_0319.DSN; CLASS: IO; ROHS: Yes; HEIGHT: 2.8MM
footprint MINI_USB_5S
pins: 1 P1, 2 P2, 3 P3, 4 P4, 5 P5, 6 SHLD1, 7 SHLD3, 8 SHLD2, 9 SHLD4
text: 5V; D-; D+; ID; G

## USB_MINI_AB_RECEPTACLE_3
designator J?  value MICRO_USB_5S  (hidden comment: USB_MINI_AB_RECEPTACLE_3)
CON 5 USB MICRO_AB RA SKT SMT 0.65MM SP 110H AU; CAD_APPROVED: Yes; Temp_Range: -55&#8451; to 105&#8451;; MFG_PN01: 23970101#LCP-58LF; MFG_NAME01: ANYTRONIC CORPORATION LIMITED; AGILE_PN: 211-80104; Source_Path: D:\NXP_RT1050\RT1050_MB_PRO\SCH\IMXRT1052_MB_PRO_0418.DSN; CLASS: IO; HEIGHT: 2.8MM; ROHS: Yes; PCB DECAL: MICRO_USB_5S
footprint MICRO_USB_5S
pins: 1 P1, 2 P2, 3 P3, 4 P4, 5 P5, 6 SHLD1, 7 SHLD2, 8 SHLD3, 9 SHLD4, 10 SHLD5, 11 SHLD6
text: 5V; D-; D+; ID; G

## WF_PAD_0
designator TPAD?  value WF_PAD  (hidden comment: WF_PAD_0)
Source_Path: H:\NXP_RT1050\SCH\IMXRT1052_MB.DSN; PCB DECAL: WF_PAD
footprint WF_PAD
pins: 1

## WIFI_ANT_1
designator CN?  value WIFI_ANT  (hidden comment: WIFI_ANT_1)
PCB DECAL: UFL-3; Source_Path: H:\NXP_RT1050\SCH\IMXRT1052_MB.DSN
footprint UFL-3
pins: 1, 2, 3

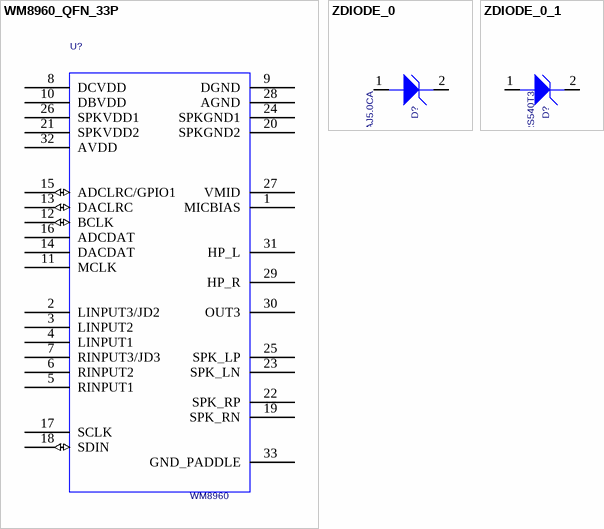
[diagram p4: symbols WM8960_QFN_33P to ZDIODE_0_1]